# Altium schematic symbol library MCU.SchLib: 34 symbols (part 1 of 2)
Pins are listed as number, name and electrical type; pins without a type are passive.

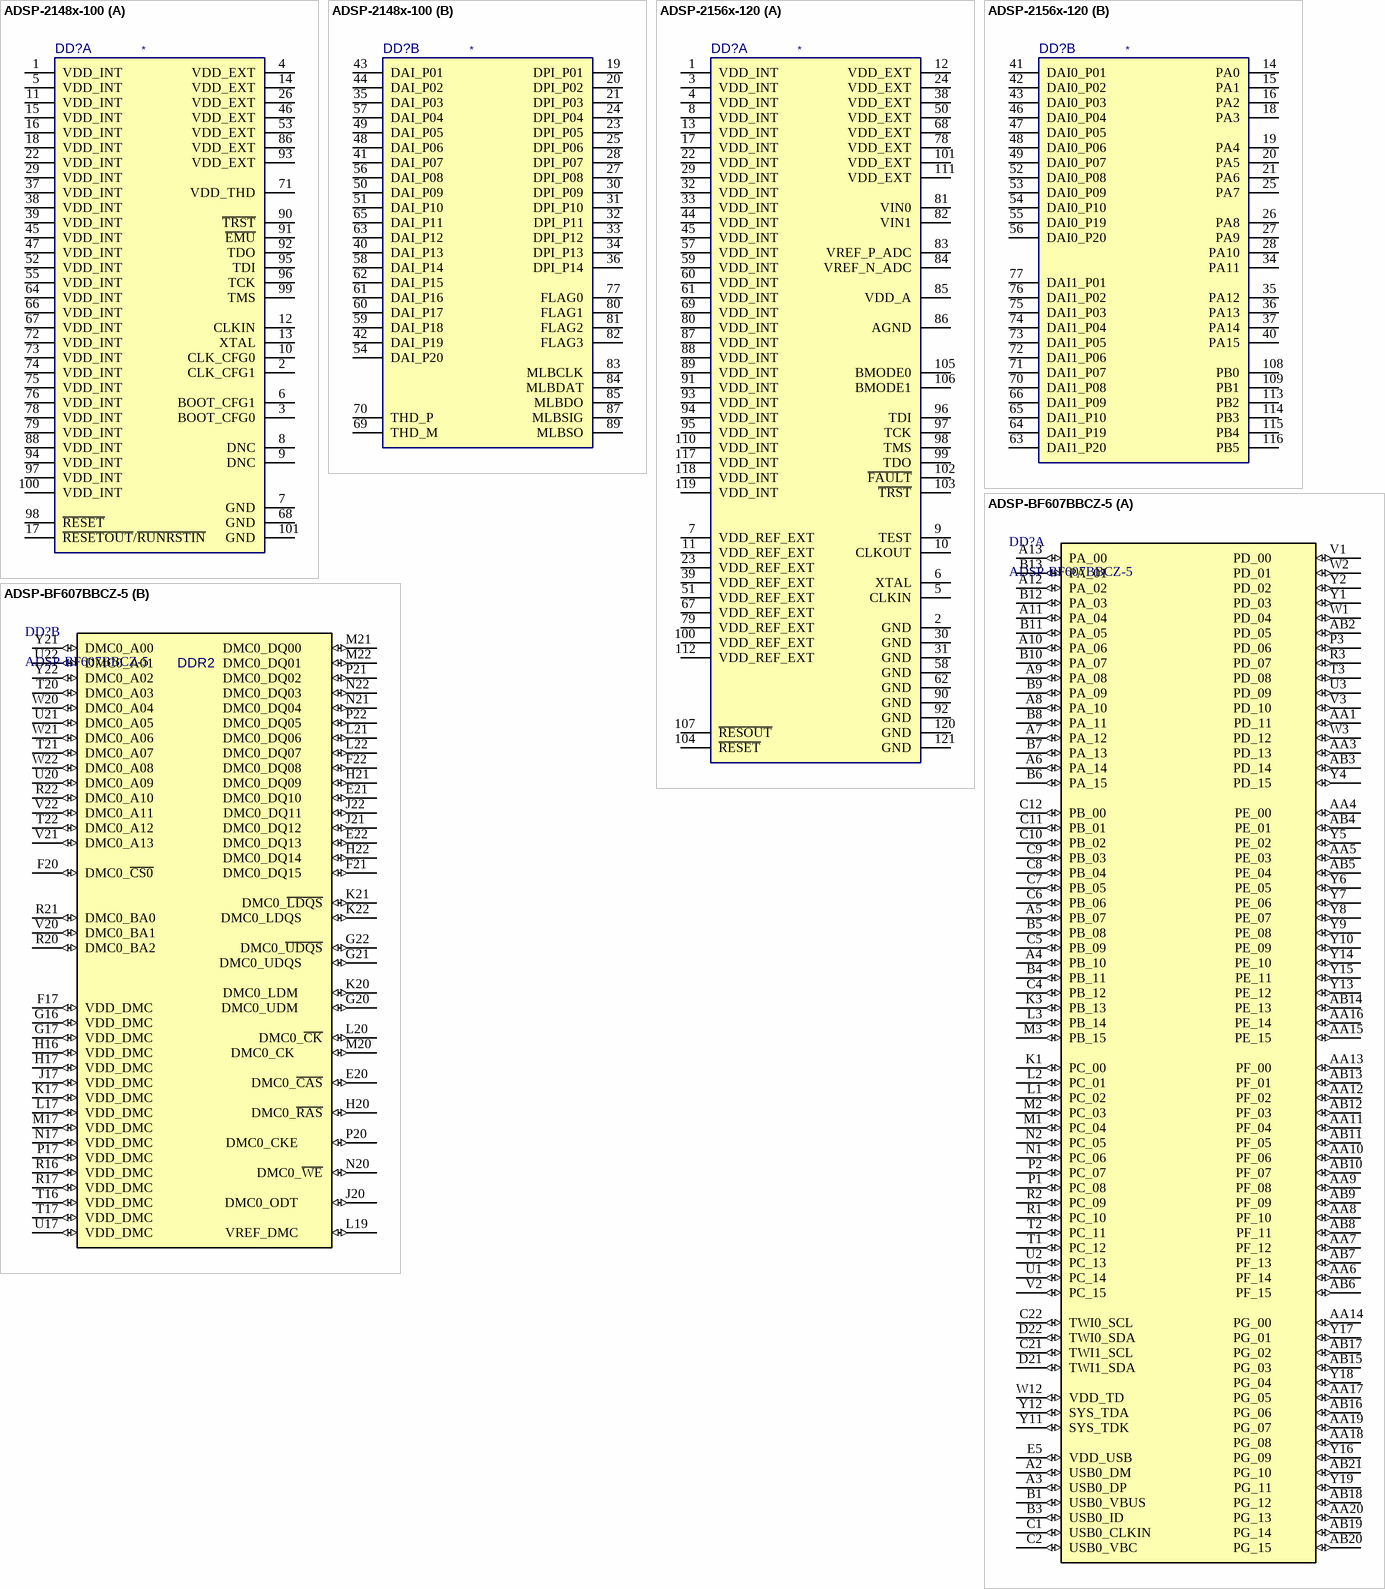
[diagram p0: symbols ADSP-2148x-100 to ADSP-BF607BBCZ-5]

## ADSP-2148x-100
designator DD?
footprint LQFP100-25
part A pins: 1 VDD_INT (power), 2 CLK_CFG1 (power), 3 BOOT_CFG0 (power), 4 VDD_EXT (power), 5 VDD_INT (power), 6 BOOT_CFG1 (power), 7 GND (power), 8 DNC (power), 9 DNC (power), 10 CLK_CFG0 (power), 11 VDD_INT (power), 12 CLKIN (power), 13 XTAL (power), 14 VDD_EXT (power), 15 VDD_INT (power), 16 VDD_INT (power), 17 ~{RESETOUT}/~{RUNRSTIN} (power), 18 VDD_INT (power), 22 VDD_INT (power), 26 VDD_EXT (power), 29 VDD_INT (power), 37 VDD_INT (power), 38 VDD_INT (power), 39 VDD_INT (power), 45 VDD_INT (power), 46 VDD_EXT (power), 47 VDD_INT (power), 52 VDD_INT (power), 53 VDD_EXT (power), 55 VDD_INT (power), 64 VDD_INT (power), 66 VDD_INT (power), 67 VDD_INT (power), 68 GND (power), 71 VDD_THD (power), 72 VDD_INT (power), 73 VDD_INT (power), 74 VDD_INT (power), 75 VDD_INT (power), 76 VDD_INT (power), 78 VDD_INT (power), 79 VDD_INT (power), 86 VDD_EXT (power), 88 VDD_INT (power), 90 ~{TRST} (power), 91 ~{EMU} (power), 92 TDO (power), 93 VDD_EXT (power), 94 VDD_INT (power), 95 TDI (power), 96 TCK (power), 97 VDD_INT (power), 98 ~{RESET} (power), 99 TMS (power), 100 VDD_INT (power), 101 GND (power)
part B pins: 19 DPI_P01 (power), 20 DPI_P02 (power), 21 DPI_P03 (power), 23 DPI_P05 (power), 24 DPI_P04 (power), 25 DPI_P06 (power), 27 DPI_P08 (power), 28 DPI_P07 (power), 30 DPI_P09 (power), 31 DPI_P10 (power), 32 DPI_P11 (power), 33 DPI_P12 (power), 34 DPI_P13 (power), 35 DAI_P03 (power), 36 DPI_P14 (power), 40 DAI_P13 (power), 41 DAI_P07 (power), 42 DAI_P19 (power), 43 DAI_P01 (power), 44 DAI_P02 (power), 48 DAI_P06 (power), 49 DAI_P05 (power), 50 DAI_P09 (power), 51 DAI_P10 (power), 54 DAI_P20 (power), 56 DAI_P08 (power), 57 DAI_P04 (power), 58 DAI_P14 (power), 59 DAI_P18 (power), 60 DAI_P17 (power), 61 DAI_P16 (power), 62 DAI_P15 (power), 63 DAI_P12 (power), 65 DAI_P11 (power), 69 THD_M (power), 70 THD_P (power), 77 FLAG0 (power), 80 FLAG1 (power), 81 FLAG2 (power), 82 FLAG3 (power), 83 MLBCLK (power), 84 MLBDAT (power), 85 MLBDO (power), 87 MLBSIG (power), 89 MLBSO (power)
1 alternate drawing of the same symbol

## ADSP-2156x-120
designator DD?
footprint LQFP120EP
part A pins: 1 VDD_INT (power), 2 GND (power), 3 VDD_INT (power), 4 VDD_INT (power), 5 CLKIN (power), 6 XTAL (power), 7 VDD_REF_EXT (power), 8 VDD_INT (power), 9 TEST (power), 10 CLKOUT (power), 11 VDD_REF_EXT (power), 12 VDD_EXT (power), 13 VDD_INT (power), 17 VDD_INT (power), 22 VDD_INT (power), 23 VDD_REF_EXT (power), 24 VDD_EXT (power), 29 VDD_INT (power), 30 GND (power), 31 GND (power), 32 VDD_INT (power), 33 VDD_INT (power), 38 VDD_EXT (power), 39 VDD_REF_EXT (power), 44 VDD_INT (power), 45 VDD_INT (power), 50 VDD_EXT (power), 51 VDD_REF_EXT (power), 57 VDD_INT (power), 58 GND (power), 59 VDD_INT (power), 60 VDD_INT (power), 61 VDD_INT (power), 62 GND (power), 67 VDD_REF_EXT (power), 68 VDD_EXT (power), 69 VDD_INT (power), 78 VDD_EXT (power), 79 VDD_REF_EXT (power), 80 VDD_INT (power), 81 VIN0 (power), 82 VIN1 (power), 83 VREF_P_ADC (power), 84 VREF_N_ADC (power), 85 VDD_A (power), 86 AGND (power), 87 VDD_INT (power), 88 VDD_INT (power), 89 VDD_INT (power), 90 GND (power), 91 VDD_INT (power), 92 GND (power), 93 VDD_INT (power), 94 VDD_INT (power), 95 VDD_INT (power), 96 TDI (power), 97 TCK (power), 98 TMS (power), 99 TDO (power), 100 VDD_REF_EXT (power), 101 VDD_EXT (power), 102 ~{FAULT} (power), 103 ~{TRST} (power), 104 ~{RESET} (power), 105 BMODE0 (power), 106 BMODE1 (power), 107 ~{RESOUT} (power), 110 VDD_INT (power), 111 VDD_EXT (power), 112 VDD_REF_EXT (power), 117 VDD_INT (power), 118 VDD_INT (power), 119 VDD_INT (power), 120 GND (power), 121 GND (power)
part B pins: 14 PA0 (power), 15 PA1 (power), 16 PA2 (power), 18 PA3 (power), 19 PA4 (power), 20 PA5 (power), 21 PA6 (power), 25 PA7 (power), 26 PA8 (power), 27 PA9 (power), 28 PA10 (power), 34 PA11 (power), 35 PA12 (power), 36 PA13 (power), 37 PA14 (power), 40 PA15 (power), 41 DAI0_P01 (power), 42 DAI0_P02 (power), 43 DAI0_P03 (power), 46 DAI0_P04 (power), 47 DAI0_P05 (power), 48 DAI0_P06 (power), 49 DAI0_P07 (power), 52 DAI0_P08 (power), 53 DAI0_P09 (power), 54 DAI0_P10 (power), 55 DAI0_P19 (power), 56 DAI0_P20 (power), 63 DAI1_P20 (power), 64 DAI1_P19 (power), 65 DAI1_P10 (power), 66 DAI1_P09 (power), 70 DAI1_P08 (power), 71 DAI1_P07 (power), 72 DAI1_P06 (power), 73 DAI1_P05 (power), 74 DAI1_P04 (power), 75 DAI1_P03 (power), 76 DAI1_P02 (power), 77 DAI1_P01 (power), 108 PB0 (power), 109 PB1 (power), 113 PB2 (power), 114 PB3 (power), 115 PB4 (power), 116 PB5 (power)

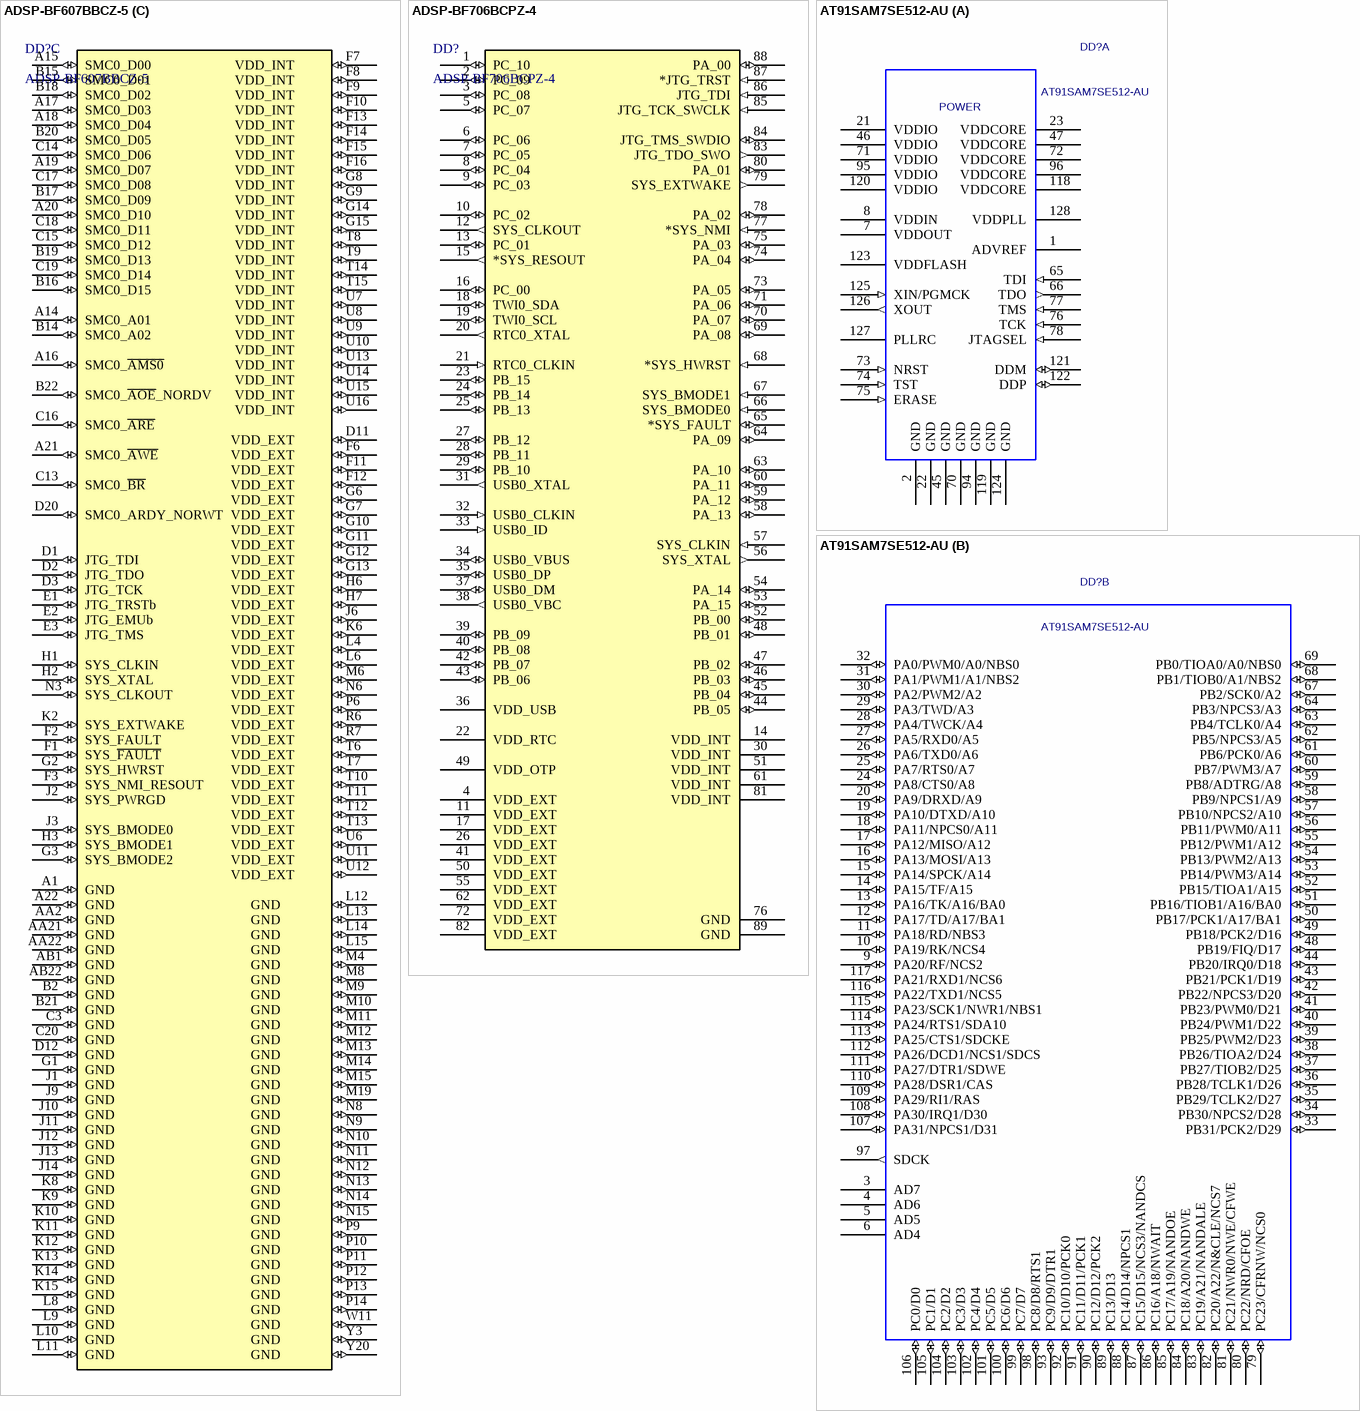
[diagram p1: symbols ADSP-BF607BBCZ-5 to AT91SAM7SE512-AU]

## ADSP-BF607BBCZ-5
designator DD?
No Description Available; Mfr_Name: Analog Devices Inc; RefDes: RefDes; Type: Type
footprint BGA349C80P22X22_1900X1900
part A pins: A2  USB0_DM         (io), A3  USB0_DP         (io), A4  PB_10           (io), A5  PB_07           (io), A6  PA_14           (io), A7  PA_12           (io), A8  PA_10           (io), A9  PA_08           (io), A10  PA_06           (io), A11  PA_04           (io), A12  PA_02           (io), A13  PA_00           (io), AA1 PD_11           (io), AA3 PD_13           (io), AA4 PE_00           (io), AA5 PE_03           (io), AA6 PF_14           (io), AA7 PF_12           (io), AA8 PF_10           (io), AA9 PF_08           (io), AA10 PF_06           (io), AA11 PF_04           (io), AA12 PF_02           (io), AA13 PF_00           (io), AA14 PG_00           (io), AA15 PE_15           (io), AA16 PE_14           (io), AA17 PG_05           (io), AA18 PG_08           (io), AA19 PG_07           (io), AA20 PG_13           (io), AB2 PD_05           (io), AB3 PD_14           (io), AB4 PE_01           (io), AB5 PE_04           (io), AB6 PF_15           (io), AB7 PF_13           (io), AB8 PF_11           (io), AB9 PF_09           (io), AB10 PF_07           (io), AB11 PF_05           (io), AB12 PF_03           (io), AB13 PF_01           (io), AB14 PE_13           (io), AB15 PG_03           (io), AB16 PG_06           (io), AB17 PG_02           (io), AB18 PG_12           (io), AB19 PG_14           (io), AB20 PG_15           (io), AB21 PG_10           (io), B1  USB0_VBUS       (io), B3  USB0_ID         (io), B4  PB_11           (io), B5  PB_08           (io), B6  PA_15           (io), B7  PA_13           (io), B8  PA_11           (io), B9  PA_09           (io), B10  PA_07           (io), B11  PA_05           (io), B12  PA_03           (io), B13  PA_01           (io), C1  USB0_CLKIN      (io), C2  USB0_VBC        (io), C4  PB_12           (io), C5  PB_09           (io), C6  PB_06           (io), C7  PB_05           (io), C8  PB_04           (io), C9  PB_03           (io), C10  PB_02           (io), C11  PB_01           (io), C12  PB_00           (io), C21  TWI1_SCL        (io), C22  TWI0_SCL        (io), D21  TWI1_SDA        (io), D22  TWI0_SDA        (io), E5  VDD_USB         (io), K1  PC_00           (io), K3  PB_13           (io), L1  PC_02           (io), L2  PC_01           (io), L3  PB_14           (io), M1  PC_04           (io), M2  PC_03           (io), M3  PB_15           (io), N1  PC_06           (io), N2  PC_05           (io), P1  PC_08           (io), P2  PC_07           (io), P3  PD_06           (io), R1  PC_10           (io), R2  PC_09           (io), R3  PD_07           (io), T1  PC_12           (io), T2  PC_11           (io), T3  PD_08           (io), U1  PC_14           (io), U2  PC_13           (io), U3  PD_09           (io), V1  PD_00           (io), V2  PC_15           (io), V3  PD_10           (io), W1  PD_04           (io), W2  PD_01           (io), W3  PD_12           (io), W12  VDD_TD          (io), Y1  PD_03           (io), Y2  PD_02           (io), Y4  PD_15           (io), Y5  PE_02           (io), Y6  PE_05           (io), Y7  PE_06           (io), Y8  PE_07           (io), Y9  PE_08           (io), Y10  PE_09           (io), Y11  SYS_TDK         (io), Y12  SYS_TDA         (io), Y13  PE_12           (io), Y14  PE_10           (io), Y15  PE_11           (io), Y16  PG_09           (io), Y17  PG_01           (io), Y18  PG_04           (io), Y19  PG_11           (io)
part B pins: E20  DMC0_~{CAS} (io), E21  DMC0_DQ10       (io), E22  DMC0_DQ13       (io), F17  VDD_DMC         (io), F20  DMC0_~{CS0}       (io), F21  DMC0_DQ15       (io), F22  DMC0_DQ08       (io), G16  VDD_DMC         (io), G17  VDD_DMC         (io), G20  DMC0_UDM        (io), G21  DMC0_UDQS       (io), G22  DMC0_~{UDQS} (io), H16  VDD_DMC         (io), H17  VDD_DMC         (io), H20  DMC0_~{RAS} (io), H21  DMC0_DQ09       (io), H22  DMC0_DQ14       (io), J17  VDD_DMC         (io), J20  DMC0_ODT        (io), J21  DMC0_DQ12       (io), J22  DMC0_DQ11       (io), K17  VDD_DMC         (io), K20  DMC0_LDM        (io), K21  DMC0_~{LDQS} (io), K22  DMC0_LDQS       (io), L17  VDD_DMC         (io), L19  VREF_DMC        (io), L20  DMC0_~{CK} (io), L21  DMC0_DQ06       (io), L22  DMC0_DQ07       (io), M17  VDD_DMC         (io), M20  DMC0_CK         (io), M21  DMC0_DQ00       (io), M22  DMC0_DQ01       (io), N17  VDD_DMC         (io), N20  DMC0_~{WE} (io), N21  DMC0_DQ04       (io), N22  DMC0_DQ03       (io), P17  VDD_DMC         (io), P20  DMC0_CKE        (io), P21  DMC0_DQ02       (io), P22  DMC0_DQ05       (io), R16  VDD_DMC         (io), R17  VDD_DMC         (io), R20  DMC0_BA2        (io), R21  DMC0_BA0        (io), R22  DMC0_A10        (io), T16  VDD_DMC         (io), T17  VDD_DMC         (io), T20  DMC0_A03        (io), T21  DMC0_A07        (io), T22  DMC0_A12        (io), U17  VDD_DMC         (io), U20  DMC0_A09        (io), U21  DMC0_A05        (io), U22  DMC0_A01        (io), V20  DMC0_BA1        (io), V21  DMC0_A13        (io), V22  DMC0_A11        (io), W20  DMC0_A04        (io), W21  DMC0_A06        (io), W22  DMC0_A08        (io), Y21  DMC0_A00        (io), Y22  DMC0_A02        (io)
part C pins: A1  GND             (io), A14  SMC0_A01        (io), A15  SMC0_D00        (io), A16  SMC0_~{AMS0} (io), A17  SMC0_D03        (io), A18  SMC0_D04        (io), A19  SMC0_D07        (io), A20  SMC0_D10        (io), A21  SMC0_~{AWE} (io), A22  GND             (io), AA2 GND             (io), AA21 GND             (io), AA22 GND             (io), AB1 GND             (io), AB22 GND             (io), B2  GND             (io), B14  SMC0_A02        (io), B15  SMC0_D01        (io), B16  SMC0_D15        (io), B17  SMC0_D09        (io), B18  SMC0_D02        (io), B19  SMC0_D13        (io), B20  SMC0_D05        (io), B21  GND             (io), B22  SMC0_~{AOE}_NORDV (io), C3 GND             (io), C13  SMC0_~{BR} (io), C14  SMC0_D06        (io), C15  SMC0_D12        (io), C16  SMC0_~{ARE} (io), C17  SMC0_D08        (io), C18  SMC0_D11        (io), C19  SMC0_D14        (io), C20  GND             (io), D1  JTG_TDI         (io), D2  JTG_TDO         (io), D3  JTG_TCK         (io), D11  VDD_EXT         (io), D12  GND             (io), D20  SMC0_ARDY_NORWT (io), E1  JTG_TRSTb       (io), E2  JTG_EMUb        (io), E3  JTG_TMS         (io), F1  SYS_~{FAULT} (io), F2  SYS_FAULT       (io), F3  SYS_NMI_RESOUT (io), F6  VDD_EXT         (io), F7  VDD_INT         (io), F8  VDD_INT         (io), F9  VDD_INT         (io), F10  VDD_INT         (io), F11  VDD_EXT         (io), F12  VDD_EXT         (io), F13  VDD_INT         (io), F14  VDD_INT         (io), F15  VDD_INT         (io), F16  VDD_INT         (io), G1  GND             (io), G2  SYS_HWRST (io), G3  SYS_BMODE2      (io), G6  VDD_EXT         (io), G7  VDD_EXT         (io), G8  VDD_INT         (io), G9  VDD_INT         (io), G10  VDD_EXT         (io), G11  VDD_EXT         (io), G12  VDD_EXT         (io), G13  VDD_EXT         (io), G14  VDD_INT         (io), G15  VDD_INT         (io), H1  SYS_CLKIN       (io), H2  SYS_XTAL        (io), H3  SYS_BMODE1      (io), H6  VDD_EXT         (io), H7  VDD_EXT         (io), J1  GND             (io), J2  SYS_PWRGD       (io), J3  SYS_BMODE0      (io), J6  VDD_EXT         (io), J9  GND             (io), J10  GND             (io), J11  GND             (io), J12  GND             (io), J13  GND             (io), J14  GND             (io), K2  SYS_EXTWAKE     (io), K6  VDD_EXT         (io), K8  GND             (io), K9  GND             (io), K10  GND             (io), K11  GND             (io), K12  GND             (io), K13  GND             (io), K14  GND             (io), K15  GND             (io), L4  VDD_EXT         (io), L6  VDD_EXT         (io), L8  GND             (io), L9  GND             (io), L10  GND             (io), L11  GND             (io), L12  GND             (io), L13  GND             (io), L14  GND             (io), L15  GND             (io), M4  GND             (io), M6  VDD_EXT         (io), M8  GND             (io), M9  GND             (io), M10  GND             (io), M11  GND             (io), M12  GND             (io), M13  GND             (io), M14  GND             (io), M15  GND             (io), M19  GND             (io), N3 SYS_CLKOUT      (io), N6  VDD_EXT         (io), N8  GND             (io), N9  GND             (io), N10  GND             (io), N11  GND             (io), N12  GND             (io), N13  GND             (io), N14  GND             (io), N15  GND             (io), P6  VDD_EXT         (io), P9  GND             (io), P10  GND             (io), P11  GND             (io), P12  GND             (io), P13  GND             (io), P14  GND             (io), R6  VDD_EXT         (io), R7  VDD_EXT         (io), T6  VDD_EXT         (io), T7  VDD_EXT         (io), T8  VDD_INT         (io), T9  VDD_INT         (io), T10  VDD_EXT         (io), T11  VDD_EXT         (io), T12  VDD_EXT         (io), T13  VDD_EXT         (io), T14  VDD_INT         (io), T15  VDD_INT         (io), U6  VDD_EXT         (io), U7  VDD_INT         (io), U8  VDD_INT         (io), U9  VDD_INT         (io), U10  VDD_INT         (io), U11  VDD_EXT         (io), U12  VDD_EXT         (io), U13  VDD_INT         (io), U14  VDD_INT         (io), U15  VDD_INT         (io), U16  VDD_INT         (io), W11  GND             (io), Y3  GND             (io), Y20  GND             (io)
1 alternate drawing of the same symbol
part B text: DDR2

## ADSP-BF706BCPZ-4
designator DD?
No Description Available; Mfr_Name: Analog Devices Inc; RefDes: RefDes; Type: Type
footprint LFCSP88 (CP-88-8) ADI-M
pins: 1 PC_10 (io), 2 PC_09 (io), 3 PC_08 (io), 4 VDD_EXT (power), 5 PC_07 (io), 6 PC_06 (io), 7 PC_05 (io), 8 PC_04 (io), 9 PC_03 (io), 10 PC_02 (io), 11 VDD_EXT (power), 12 SYS_CLKOUT (out), 13 PC_01 (io), 14 VDD_INT (power), 15 *SYS_RESOUT (out), 16 PC_00 (io), 17 VDD_EXT (power), 18 TWI0_SDA (io), 19 TWI0_SCL (io), 20 RTC0_XTAL (out), 21 RTC0_CLKIN (in), 22 VDD_RTC (power), 23 PB_15 (io), 24 PB_14 (io), 25 PB_13 (io), 26 VDD_EXT (power), 27 PB_12 (io), 28 PB_11 (io), 29 PB_10 (io), 30 VDD_INT (power), 31 USB0_XTAL (out), 32 USB0_CLKIN (in), 33 USB0_ID (in), 34 USB0_VBUS (io), 35 USB0_DP (io), 36 VDD_USB (power), 37 USB0_DM (io), 38 USB0_VBC (out), 39 PB_09 (io), 40 PB_08 (io), 41 VDD_EXT (power), 42 PB_07 (io), 43 PB_06 (io), 44 PB_05 (io), 45 PB_04 (io), 46 PB_03 (io), 47 PB_02 (io), 48 PB_01 (io), 49 VDD_OTP (power), 50 VDD_EXT (power), 51 VDD_INT (power), 52 PB_00 (io), 53 PA_15 (io), 54 PA_14 (io), 55 VDD_EXT (power), 56 SYS_XTAL (out), 57 SYS_CLKIN (in), 58 PA_13 (io), 59 PA_12 (io), 60 PA_11 (io), 61 VDD_INT (power), 62 VDD_EXT (power), 63 PA_10 (io), 64 PA_09 (io), 65 *SYS_FAULT (io), 66 SYS_BMODE0 (in), 67 SYS_BMODE1 (in), 68 *SYS_HWRST (in), 69 PA_08 (io), 70 PA_07 (io), 71 PA_06 (io), 72 VDD_EXT (power), 73 PA_05 (io), 74 PA_04 (io), 75 PA_03 (io), 76 GND (power), 77 *SYS_NMI (in), 78 PA_02 (io), 79 SYS_EXTWAKE (out), 80 PA_01 (io), 81 VDD_INT (power), 82 VDD_EXT (power), 83 JTG_TDO_SWO (out), 84 JTG_TMS_SWDIO (io), 85 JTG_TCK_SWCLK (in), 86 JTG_TDI (in), 87 *JTG_TRST (in), 88 PA_00 (io), 89 GND (power)
1 alternate drawing of the same symbol

## AT91SAM7SE512-AU
designator DD?
Value: *
footprint LQFP128
part A pins: 1 ADVREF (power), 2 GND (power), 7 VDDOUT (power), 8 VDDIN (power), 21 VDDIO (power), 22 GND (power), 23 VDDCORE (power), 45 GND (power), 46 VDDIO (power), 47 VDDCORE (power), 65 TDI (in), 66 TDO (out), 70 GND (power), 71 VDDIO (power), 72 VDDCORE (power), 73 NRST (in), 74 TST (in), 75 ERASE (in), 76 TCK (in), 77 TMS (in), 78 JTAGSEL (in), 94 GND (power), 95 VDDIO (power), 96 VDDCORE (power), 118 VDDCORE (power), 119 GND (power), 120 VDDIO (power), 121 DDM (io), 122 DDP (io), 123 VDDFLASH (power), 124 GND (power), 125 XIN/PGMCK (in), 126 XOUT (out), 127 PLLRC, 128 VDDPLL (power)
part B pins: 3 AD7, 4 AD6, 5 AD5, 6 AD4, 9 PA20/RF/NCS2 (io), 10 PA19/RK/NCS4 (io), 11 PA18/RD/NBS3 (io), 12 PA17/TD/A17/BA1 (io), 13 PA16/TK/A16/BA0 (io), 14 PA15/TF/A15 (io), 15 PA14/SPCK/A14 (io), 16 PA13/MOSI/A13 (io), 17 PA12/MISO/A12 (io), 18 PA11/NPCS0/A11 (io), 19 PA10/DTXD/A10 (io), 20 PA9/DRXD/A9 (io), 24 PA8/CTS0/A8 (io), 25 PA7/RTS0/A7 (io), 26 PA6/TXD0/A6 (io), 27 PA5/RXD0/A5 (io), 28 PA4/TWCK/A4 (io), 29 PA3/TWD/A3 (io), 30 PA2/PWM2/A2 (io), 31 PA1/PWM1/A1/NBS2 (io), 32 PA0/PWM0/A0/NBS0 (io), 33 PB31/PCK2/D29 (io), 34 PB30/NPCS2/D28 (io), 35 PB29/TCLK2/D27 (io), 36 PB28/TCLK1/D26 (io), 37 PB27/TIOB2/D25 (io), 38 PB26/TIOA2/D24 (io), 39 PB25/PWM2/D23 (io), 40 PB24/PWM1/D22 (io), 41 PB23/PWM0/D21 (io), 42 PB22/NPCS3/D20 (io), 43 PB21/PCK1/D19 (io), 44 PB20/IRQ0/D18 (io), 48 PB19/FIQ/D17 (io), 49 PB18/PCK2/D16 (io), 50 PB17/PCK1/A17/BA1 (io), 51 PB16/TIOB1/A16/BA0 (io), 52 PB15/TIOA1/A15 (io), 53 PB14/PWM3/A14 (io), 54 PB13/PWM2/A13 (io), 55 PB12/PWM1/A12 (io), 56 PB11/PWM0/A11 (io), 57 PB10/NPCS2/A10 (io), 58 PB9/NPCS1/A9 (io), 59 PB8/ADTRG/A8 (io), 60 PB7/PWM3/A7 (io), 61 PB6/PCK0/A6 (io), 62 PB5/NPCS3/A5 (io), 63 PB4/TCLK0/A4 (io), 64 PB3/NPCS3/A3 (io), 67 PB2/SCK0/A2 (io), 68 PB1/TIOB0/A1/NBS2 (io), 69 PB0/TIOA0/A0/NBS0 (io), 79 PC23/CFRNW/NCS0 (io), 80 PC22/NRD/CFOE (io), 81 PC21/NWR0/NWE/CFWE (io), 82 PC20/A22/N&CLE/NCS7 (io), 83 PC19/A21/NANDALE (io), 84 PC18/A20/NANDWE (io), 85 PC17/A19/NANDOE (io), 86 PC16/A18/NWAIT (io), 87 PC15/D15/NCS3/NANDCS (io), 88 PC14/D14/NPCS1 (io), 89 PC13/D13 (io), 90 PC12/D12/PCK2 (io), 91 PC11/D11/PCK1 (io), 92 PC10/D10/PCK0 (io), 93 PC9/D9/DTR1 (io), 97 SDCK (out), 98 PC8/D8/RTS1 (io), 99 PC7/D7 (io), 100 PC6/D6 (io), 101 PC5/D5 (io), 102 PC4/D4 (io), 103 PC3/D3 (io), 104 PC2/D2 (io), 105 PC1/D1 (io), 106 PC0/D0 (io), 107 PA31/NPCS1/D31 (io), 108 PA30/IRQ1/D30 (io), 109 PA29/RI1/RAS (io), 110 PA28/DSR1/CAS (io), 111 PA27/DTR1/SDWE (io), 112 PA26/DCD1/NCS1/SDCS (io), 113 PA25/CTS1/SDCKE (io), 114 PA24/RTS1/SDA10 (io), 115 PA23/SCK1/NWR1/NBS1 (io), 116 PA22/TXD1/NCS5 (io), 117 PA21/RXD1/NCS6 (io)
part A text: POWER

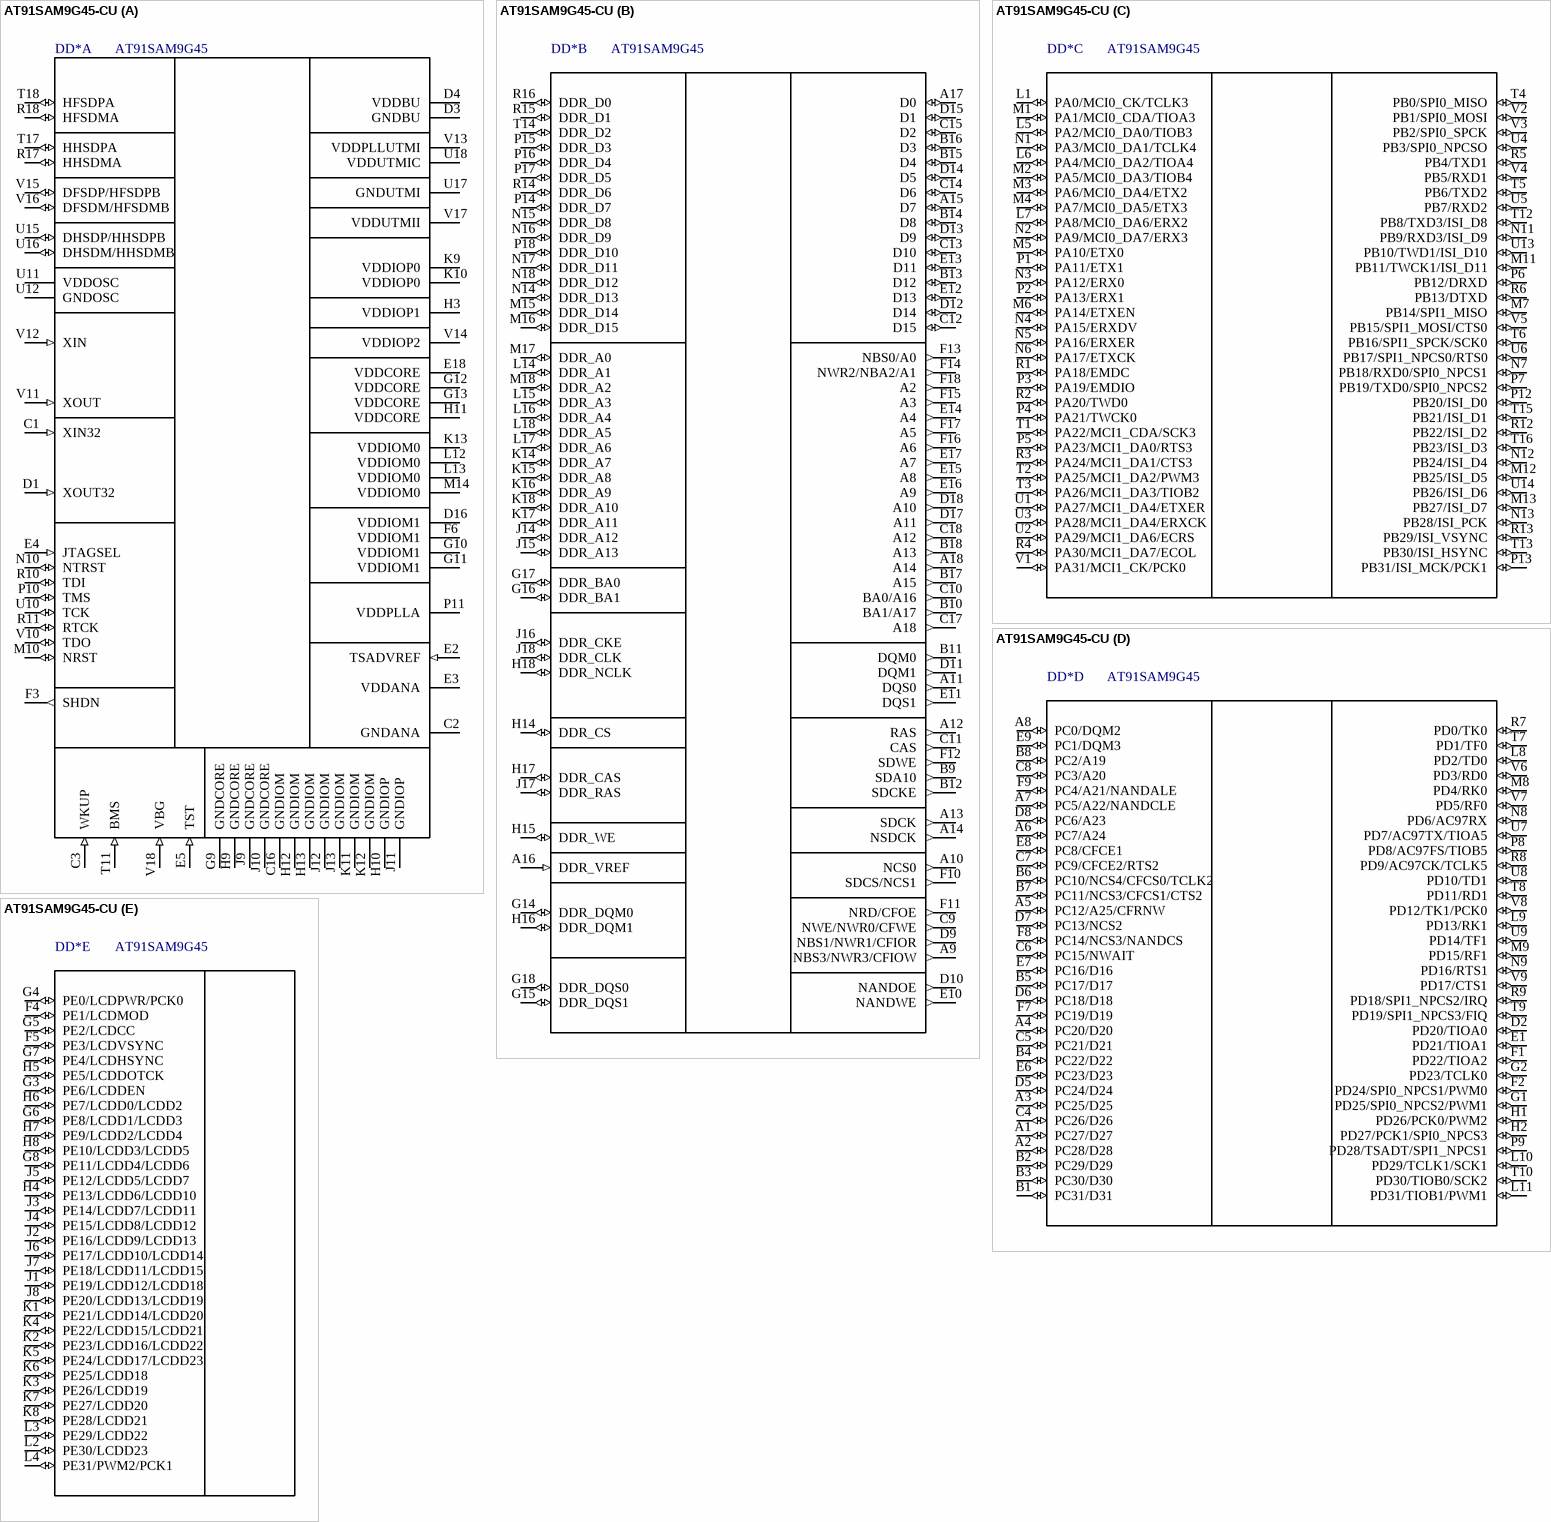
[diagram p2: symbol AT91SAM9G45-CU]

## AT91SAM9G45-CU
designator DD*, comment AT91SAM9G45
footprint BGA324x18
signal-integrity model AT91SAM9G45
part A pins: C1 XIN32 (in), C2 GNDANA (power), C3 WKUP (in), C16 GNDIOM (power), D1 XOUT32 (in), D3 GNDBU (power), D4 VDDBU (power), D16 VDDIOM1 (power), E2 TSADVREF (in), E3 VDDANA (power), E4 JTAGSEL (in), E5 TST (in), E18 VDDCORE (power), F3 SHDN (out), F6 VDDIOM1 (power), G9 GNDCORE (power), G10 VDDIOM1 (power), G11 VDDIOM1 (power), G12 VDDCORE (power), G13 VDDCORE (power), H3 VDDIOP1 (power), H9 GNDCORE (power), H10 GNDIOP (power), H11 VDDCORE (power), H12 GNDIOM (power), H13 GNDIOM (power), J9 GNDCORE (power), J10 GNDCORE (power), J11 GNDIOP (power), J12 GNDIOM (power), J13 GNDIOM (power), K9 VDDIOP0 (power), K10 VDDIOP0 (power), K11 GNDIOM (power), K12 GNDIOM (power), K13 VDDIOM0 (power), L12 VDDIOM0 (power), L13 VDDIOM0 (power), M10 NRST (io), M14 VDDIOM0 (power), N10 NTRST (io), P10 TMS (io), P11 VDDPLLA (power), R10 TDI (io), R11 RTCK (io), R17 HHSDMA (io), R18 HFSDMA (io), T11 BMS (in), T17 HHSDPA (io), T18 HFSDPA (io), U10 TCK (io), U11 VDDOSC (power), U12 GNDOSC (power), U15 DHSDP/HHSDPB (io), U16 DHSDM/HHSDMB (io), U17 GNDUTMI (power), U18 VDDUTMIC (power), V10 TDO (io), V11 XOUT (in), V12 XIN (in), V13 VDDPLLUTMI (power), V14 VDDIOP2 (power), V15 DFSDP/HFSDPB (io), V16 DFSDM/HFSDMB (io), V17 VDDUTMII (power), V18 VBG (in)
part B pins: A9 NBS3/NWR3/CFIOW (out), A10 NCS0 (out), A11 DQS0 (out), A12 RAS (out), A13 SDCK (out), A14 NSDCK (out), A15 D7 (io), A16 DDR_VREF (in), A17 D0 (io), A18 A14 (out), B9 SDA10 (out), B10 BA1/A17 (out), B11 DQM0 (out), B12 SDCKE (out), B13 D12 (io), B14 D8 (io), B15 D4 (io), B16 D3 (io), B17 A15 (out), B18 A13 (out), C9 NWE/NWR0/CFWE (out), C10 BA0/A16 (out), C11 CAS (out), C12 D15 (io), C13 D10 (io), C14 D6 (io), C15 D2 (io), C17 A18 (out), C18 A12 (out), D9 NBS1/NWR1/CFIOR (out), D10 NANDOE (out), D11 DQM1 (out), D12 D14 (io), D13 D9 (io), D14 D5 (io), D15 D1 (io), D17 A11 (out), D18 A10 (out), E10 NANDWE (out), E11 DQS1 (out), E12 D13 (io), E13 D11 (io), E14 A4 (out), E15 A8 (out), E16 A9 (out), E17 A7 (out), F10 SDCS/NCS1 (out), F11 NRD/CFOE (out), F12 SDWE (out), F13 NBS0/A0 (out), F14 NWR2/NBA2/A1 (out), F15 A3 (out), F16 A6 (out), F17 A5 (out), F18 A2 (out), G14 DDR_DQM0 (io), G15 DDR_DQS1 (io), G16 DDR_BA1 (io), G17 DDR_BA0 (io), G18 DDR_DQS0 (io), H14 DDR_CS (io), H15 DDR_WE (io), H16 DDR_DQM1 (io), H17 DDR_CAS (io), H18 DDR_NCLK (io), J14 DDR_A12 (io), J15 DDR_A13 (io), J16 DDR_CKE (io), J17 DDR_RAS (io), J18 DDR_CLK (io), K14 DDR_A7 (io), K15 DDR_A8 (io), K16 DDR_A9 (io), K17 DDR_A11 (io), K18 DDR_A10 (io), L14 DDR_A1 (io), L15 DDR_A3 (io), L16 DDR_A4 (io), L17 DDR_A6 (io), L18 DDR_A5 (io), M15 DDR_D14 (io), M16 DDR_D15 (io), M17 DDR_A0 (io), M18 DDR_A2 (io), N14 DDR_D13 (io), N15 DDR_D8 (io), N16 DDR_D9 (io), N17 DDR_D11 (io), N18 DDR_D12 (io), P14 DDR_D7 (io), P15 DDR_D3 (io), P16 DDR_D4 (io), P17 DDR_D5 (io), P18 DDR_D10 (io), R14 DDR_D6 (io), R15 DDR_D1 (io), R16 DDR_D0 (io), T14 DDR_D2 (io)
part C pins: L1 PA0/MCI0_CK/TCLK3 (io), L5 PA2/MCI0_DA0/TIOB3 (io), L6 PA4/MCI0_DA2/TIOA4 (io), L7 PA8/MCI0_DA6/ERX2 (io), M1 PA1/MCI0_CDA/TIOA3 (io), M2 PA5/MCI0_DA3/TIOB4 (io), M3 PA6/MCI0_DA4/ETX2 (io), M4 PA7/MCI0_DA5/ETX3 (io), M5 PA10/ETX0 (io), M6 PA14/ETXEN (io), M7 PB14/SPI1_MISO (io), M11 PB11/TWCK1/ISI_D11 (io), M12 PB25/ISI_D5 (io), M13 PB27/ISI_D7 (io), N1 PA3/MCI0_DA1/TCLK4 (io), N2 PA9/MCI0_DA7/ERX3 (io), N3 PA12/ERX0 (io), N4 PA15/ERXDV (io), N5 PA16/ERXER (io), N6 PA17/ETXCK (io), N7 PB18/RXD0/SPI0_NPCS1 (io), N11 PB9/RXD3/ISI_D9 (io), N12 PB24/ISI_D4 (io), N13 PB28/ISI_PCK (io), P1 PA11/ETX1 (io), P2 PA13/ERX1 (io), P3 PA19/EMDIO (io), P4 PA21/TWCK0 (io), P5 PA23/MCI1_DA0/RTS3 (io), P6 PB12/DRXD (io), P7 PB19/TXD0/SPI0_NPCS2 (io), P12 PB20/ISI_D0 (io), P13 PB31/ISI_MCK/PCK1 (io), R1 PA18/EMDC (io), R2 PA20/TWD0 (io), R3 PA24/MCI1_DA1/CTS3 (io), R4 PA30/MCI1_DA7/ECOL (io), R5 PB4/TXD1 (io), R6 PB13/DTXD (io), R12 PB22/ISI_D2 (io), R13 PB29/ISI_VSYNC (io), T1 PA22/MCI1_CDA/SCK3 (io), T2 PA25/MCI1_DA2/PWM3 (io), T3 PA26/MCI1_DA3/TIOB2 (io), T4 PB0/SPI0_MISO (io), T5 PB6/TXD2 (io), T6 PB16/SPI1_SPCK/SCK0 (io), T12 PB8/TXD3/ISI_D8 (io), T13 PB30/ISI_HSYNC (io), T15 PB21/ISI_D1 (io), T16 PB23/ISI_D3 (io), U1 PA27/MCI1_DA4/ETXER (io), U2 PA29/MCI1_DA6/ECRS (io), U3 PA28/MCI1_DA4/ERXCK (io), U4 PB3/SPI0_NPCSO (io), U5 PB7/RXD2 (io), U6 PB17/SPI1_NPCS0/RTS0 (io), U13 PB10/TWD1/ISI_D10 (io), U14 PB26/ISI_D6 (io), V1 PA31/MCI1_CK/PCK0 (io), V2 PB1/SPI0_MOSI (io), V3 PB2/SPI0_SPCK (io), V4 PB5/RXD1 (io), V5 PB15/SPI1_MOSI/CTS0 (io)
part D pins: A1 PC27/D27 (io), A2 PC28/D28 (io), A3 PC25/D25 (io), A4 PC20/D20 (io), A5 PC12/A25/CFRNW (io), A6 PC7/A24 (io), A7 PC5/A22/NANDCLE (io), A8 PC0/DQM2 (io), B1 PC31/D31 (io), B2 PC29/D29 (io), B3 PC30/D30 (io), B4 PC22/D22 (io), B5 PC17/D17 (io), B6 PC10/NCS4/CFCS0/TCLK2 (io), B7 PC11/NCS3/CFCS1/CTS2 (io), B8 PC2/A19 (io), C4 PC26/D26 (io), C5 PC21/D21 (io), C6 PC15/NWAIT (io), C7 PC9/CFCE2/RTS2 (io), C8 PC3/A20 (io), D2 PD20/TIOA0 (io), D5 PC24/D24 (io), D6 PC18/D18 (io), D7 PC13/NCS2 (io), D8 PC6/A23 (io), E1 PD21/TIOA1 (io), E6 PC23/D23 (io), E7 PC16/D16 (io), E8 PC8/CFCE1 (io), E9 PC1/DQM3 (io), F1 PD22/TIOA2 (io), F2 PD24/SPI0_NPCS1/PWM0 (io), F7 PC19/D19 (io), F8 PC14/NCS3/NANDCS (io), F9 PC4/A21/NANDALE (io), G1 PD25/SPI0_NPCS2/PWM1 (io), G2 PD23/TCLK0 (io), H1 PD26/PCK0/PWM2 (io), H2 PD27/PCK1/SPI0_NPCS3 (io), L8 PD2/TD0 (io), L9 PD13/RK1 (io), L10 PD29/TCLK1/SCK1 (io), L11 PD31/TIOB1/PWM1 (io), M8 PD4/RK0 (io), M9 PD15/RF1 (io), N8 PD6/AC97RX (io), N9 PD16/RTS1 (io), P8 PD8/AC97FS/TIOB5 (io), P9 PD28/TSADT/SPI1_NPCS1 (io), R7 PD0/TK0 (io), R8 PD9/AC97CK/TCLK5 (io), R9 PD18/SPI1_NPCS2/IRQ (io), T7 PD1/TF0 (io), T8 PD11/RD1 (io), T9 PD19/SPI1_NPCS3/FIQ (io), T10 PD30/TIOB0/SCK2 (io), U7 PD7/AC97TX/TIOA5 (io), U8 PD10/TD1 (io), U9 PD14/TF1 (io), V6 PD3/RD0 (io), V7 PD5/RF0 (io), V8 PD12/TK1/PCK0 (io), V9 PD17/CTS1 (io)
part E pins: F4 PE1/LCDMOD (io), F5 PE3/LCDVSYNC (io), G3 PE6/LCDDEN (io), G4 PE0/LCDPWR/PCK0 (io), G5 PE2/LCDCC (io), G6 PE8/LCDD1/LCDD3 (io), G7 PE4/LCDHSYNC (io), G8 PE11/LCDD4/LCDD6 (io), H4 PE13/LCDD6/LCDD10 (io), H5 PE5/LCDDOTCK (io), H6 PE7/LCDD0/LCDD2 (io), H7 PE9/LCDD2/LCDD4 (io), H8 PE10/LCDD3/LCDD5 (io), J1 PE19/LCDD12/LCDD18 (io), J2 PE16/LCDD9/LCDD13 (io), J3 PE14/LCDD7/LCDD11 (io), J4 PE15/LCDD8/LCDD12 (io), J5 PE12/LCDD5/LCDD7 (io), J6 PE17/LCDD10/LCDD14 (io), J7 PE18/LCDD11/LCDD15 (io), J8 PE20/LCDD13/LCDD19 (io), K1 PE21/LCDD14/LCDD20 (io), K2 PE23/LCDD16/LCDD22 (io), K3 PE26/LCDD19 (io), K4 PE22/LCDD15/LCDD21 (io), K5 PE24/LCDD17/LCDD23 (io), K6 PE25/LCDD18 (io), K7 PE27/LCDD20 (io), K8 PE28/LCDD21 (io), L2 PE30/LCDD23 (io), L3 PE29/LCDD22 (io), L4 PE31/PWM2/PCK1 (io)

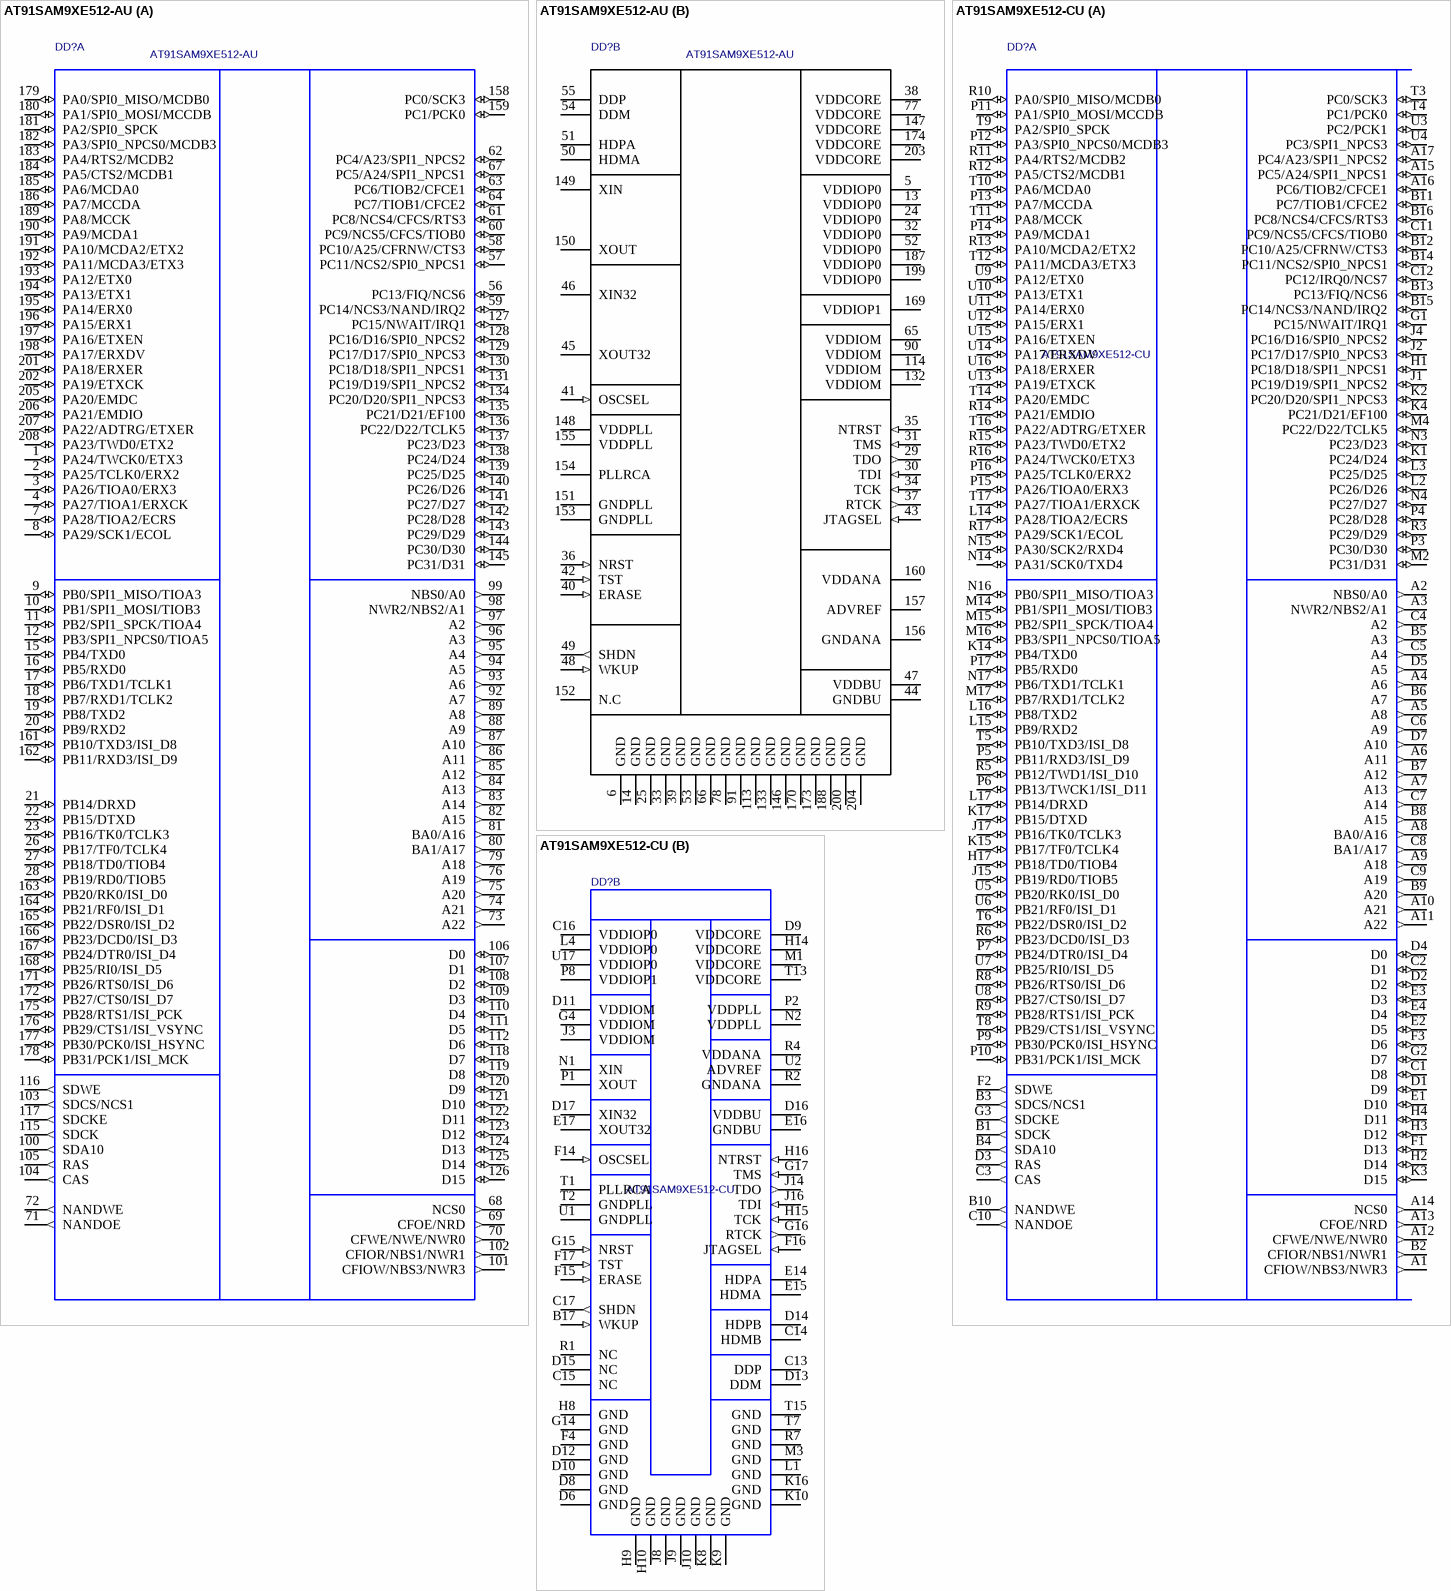
[diagram p3: symbols AT91SAM9XE512-AU to AT91SAM9XE512-CU]

## AT91SAM9XE512-AU
designator DD?
Value: *
footprint PQFP208
signal-integrity model sam9xe512_sq208_33
part A pins: 1 PA24/TWCK0/ETX3 (io), 2 PA25/TCLK0/ERX2 (io), 3 PA26/TIOA0/ERX3 (io), 4 PA27/TIOA1/ERXCK (io), 7 PA28/TIOA2/ECRS (io), 8 PA29/SCK1/ECOL (io), 9 PB0/SPI1_MISO/TIOA3 (io), 10 PB1/SPI1_MOSI/TIOB3 (io), 11 PB2/SPI1_SPCK/TIOA4 (io), 12 PB3/SPI1_NPCS0/TIOA5 (io), 15 PB4/TXD0 (io), 16 PB5/RXD0 (io), 17 PB6/TXD1/TCLK1 (io), 18 PB7/RXD1/TCLK2 (io), 19 PB8/TXD2 (io), 20 PB9/RXD2 (io), 21 PB14/DRXD (io), 22 PB15/DTXD (io), 23 PB16/TK0/TCLK3 (io), 26 PB17/TF0/TCLK4 (io), 27 PB18/TD0/TIOB4 (io), 28 PB19/RD0/TIOB5 (io), 56 PC13/FIQ/NCS6 (io), 57 PC11/NCS2/SPI0_NPCS1 (io), 58 PC10/A25/CFRNW/CTS3 (io), 59 PC14/NCS3/NAND/IRQ2 (io), 60 PC9/NCS5/CFCS/TIOB0 (io), 61 PC8/NCS4/CFCS/RTS3 (io), 62 PC4/A23/SPI1_NPCS2 (io), 63 PC6/TIOB2/CFCE1 (io), 64 PC7/TIOB1/CFCE2 (io), 67 PC5/A24/SPI1_NPCS1 (io), 68 NCS0 (out), 69 CFOE/NRD (out), 70 CFWE/NWE/NWR0 (out), 71 NANDOE (out), 72 NANDWE (out), 73 A22 (out), 74 A21 (out), 75 A20 (out), 76 A19 (out), 79 A18 (out), 80 BA1/A17 (out), 81 BA0/A16 (out), 82 A15 (out), 83 A14 (out), 84 A13 (out), 85 A12 (out), 86 A11 (out), 87 A10 (out), 88 A9 (out), 89 A8 (out), 92 A7 (out), 93 A6 (out), 94 A5 (out), 95 A4 (out), 96 A3 (out), 97 A2 (out), 98 NWR2/NBS2/A1 (out), 99 NBS0/A0 (out), 100 SDA10 (out), 101 CFIOW/NBS3/NWR3 (out), 102 CFIOR/NBS1/NWR1 (out), 103 SDCS/NCS1 (out), 104 CAS (out), 105 RAS (out), 106 D0 (io), 107 D1 (io), 108 D2 (io), 109 D3 (io), 110 D4 (io), 111 D5 (io), 112 D6 (io), 115 SDCK (out), 116 SDWE (out), 117 SDCKE (out), 118 D7 (io), 119 D8 (io), 120 D9 (io), 121 D10 (io), 122 D11 (io), 123 D12 (io), 124 D13 (io), 125 D14 (io), 126 D15 (io), 127 PC15/NWAIT/IRQ1 (io), 128 PC16/D16/SPI0_NPCS2 (io), 129 PC17/D17/SPI0_NPCS3 (io), 130 PC18/D18/SPI1_NPCS1 (io), 131 PC19/D19/SPI1_NPCS2 (io), 134 PC20/D20/SPI1_NPCS3 (io), 135 PC21/D21/EF100 (io), 136 PC22/D22/TCLK5 (io), 137 PC23/D23 (io), 138 PC24/D24 (io), 139 PC25/D25 (io), 140 PC26/D26 (io), 141 PC27/D27 (io), 142 PC28/D28 (io), 143 PC29/D29 (io), 144 PC30/D30 (io), 145 PC31/D31 (io), 158 PC0/SCK3 (io), 159 PC1/PCK0 (io), 161 PB10/TXD3/ISI_D8 (io), 162 PB11/RXD3/ISI_D9 (io), 163 PB20/RK0/ISI_D0 (io), 164 PB21/RF0/ISI_D1 (io), 165 PB22/DSR0/ISI_D2 (io), 166 PB23/DCD0/ISI_D3 (io), 167 PB24/DTR0/ISI_D4 (io), 168 PB25/RI0/ISI_D5 (io), 171 PB26/RTS0/ISI_D6 (io), 172 PB27/CTS0/ISI_D7 (io), 175 PB28/RTS1/ISI_PCK (io), 176 PB29/CTS1/ISI_VSYNC (io), 177 PB30/PCK0/ISI_HSYNC (io), 178 PB31/PCK1/ISI_MCK (io), 179 PA0/SPI0_MISO/MCDB0 (io), 180 PA1/SPI0_MOSI/MCCDB (io), 181 PA2/SPI0_SPCK (io), 182 PA3/SPI0_NPCS0/MCDB3 (io), 183 PA4/RTS2/MCDB2 (io), 184 PA5/CTS2/MCDB1 (io), 185 PA6/MCDA0 (io), 186 PA7/MCCDA (io), 189 PA8/MCCK (io), 190 PA9/MCDA1 (io), 191 PA10/MCDA2/ETX2 (io), 192 PA11/MCDA3/ETX3 (io), 193 PA12/ETX0 (io), 194 PA13/ETX1 (io), 195 PA14/ERX0 (io), 196 PA15/ERX1 (io), 197 PA16/ETXEN (io), 198 PA17/ERXDV (io), 201 PA18/ERXER (io), 202 PA19/ETXCK (io), 205 PA20/EMDC (io), 206 PA21/EMDIO (io), 207 PA22/ADTRG/ETXER (io), 208 PA23/TWD0/ETX2 (io)
part B pins: 5 VDDIOP0 (power), 6 GND (power), 13 VDDIOP0 (power), 14 GND (power), 24 VDDIOP0 (power), 25 GND (power), 29 TDO (out), 30 TDI (in), 31 TMS (in), 32 VDDIOP0 (power), 33 GND (power), 34 TCK (in), 35 NTRST (in), 36 NRST (in), 37 RTCK (out), 38 VDDCORE (power), 39 GND (power), 40 ERASE (in), 41 OSCSEL (in), 42 TST (in), 43 JTAGSEL (in), 44 GNDBU (power), 45 XOUT32, 46 XIN32, 47 VDDBU (power), 48 WKUP (in), 49 SHDN (out), 50 HDMA, 51 HDPA, 52 VDDIOP0 (power), 53 GND (power), 54 DDM, 55 DDP, 65 VDDIOM (power), 66 GND (power), 77 VDDCORE (power), 78 GND (power), 90 VDDIOM (power), 91 GND (power), 113 GND (power), 114 VDDIOM (power), 132 VDDIOM (power), 133 GND (power), 146 GND (power), 147 VDDCORE (power), 148 VDDPLL (power), 149 XIN, 150 XOUT, 151 GNDPLL (power), 152 N.C (power), 153 GNDPLL (power), 154 PLLRCA, 155 VDDPLL (power), 156 GNDANA (power), 157 ADVREF (power), 160 VDDANA (power), 169 VDDIOP1 (power), 170 GND (power), 173 GND (power), 174 VDDCORE (power), 187 VDDIOP0 (power), 188 GND (power), 199 VDDIOP0 (power), 200 GND (power), 203 VDDCORE (power), 204 GND (power)

## AT91SAM9XE512-CU
designator DD?
Value: *
footprint LFBGA-217_AT91SAM9XE512-CU(Primary)
part A pins: A1 CFIOW/NBS3/NWR3 (out), A2 NBS0/A0 (out), A3 NWR2/NBS2/A1 (out), A4 A6 (out), A5 A8 (out), A6 A11 (out), A7 A13 (out), A8 BA0/A16 (out), A9 A18 (out), A10 A21 (out), A11 A22 (out), A12 CFWE/NWE/NWR0 (out), A13 CFOE/NRD (out), A14 NCS0 (out), A15 PC5/A24/SPI1_NPCS1 (io), A16 PC6/TIOB2/CFCE1 (io), A17 PC4/A23/SPI1_NPCS2 (io), B1 SDCK (out), B2 CFIOR/NBS1/NWR1 (out), B3 SDCS/NCS1 (out), B4 SDA10 (out), B5 A3 (out), B6 A7 (out), B7 A12 (out), B8 A15 (out), B9 A20 (out), B10 NANDWE (out), B11 PC7/TIOB1/CFCE2 (io), B12 PC10/A25/CFRNW/CTS3 (io), B13 PC13/FIQ/NCS6 (io), B14 PC11/NCS2/SPI0_NPCS1 (io), B15 PC14/NCS3/NAND/IRQ2 (io), B16 PC8/NCS4/CFCS/RTS3 (io), C1 D8 (io), C2 D1 (io), C3 CAS (out), C4 A2 (out), C5 A4 (out), C6 A9 (out), C7 A14 (out), C8 BA1/A17 (out), C9 A19 (out), C10 NANDOE (out), C11 PC9/NCS5/CFCS/TIOB0 (io), C12 PC12/IRQ0/NCS7 (io), D1 D9 (io), D2 (io), D3 RAS (out), D4 D0 (io), D5 A5 (out), D7 A10 (out), E1 D10 (io), E2 D5 (io), E3 D3 (io), E4 D4 (io), F1 D13 (io), F2 SDWE (out), F3 D6 (io), G1 PC15/NWAIT/IRQ1 (io), G2 D7 (io), G3 SDCKE (out), H1 PC18/D18/SPI1_NPCS1 (io), H2 D14 (io), H3 D12 (io), H4 D11 (io), H17 PB18/TD0/TIOB4 (io), J1 PC19/D19/SPI1_NPCS2 (io), J2 PC17/D17/SPI0_NPCS3 (io), J4 PC16/D16/SPI0_NPCS2 (io), J15 PB19/RD0/TIOB5 (io), J17 PB16/TK0/TCLK3 (io), K1 PC24/D24 (io), K2 PC20/D20/SPI1_NPCS3 (io), K3 D15 (io), K4 PC21/D21/EF100 (io), K14 PB4/TXD0 (io), K15 PB17/TF0/TCLK4 (io), K17 PB15/DTXD (io), L2 PC26/D26 (io), L3 PC25/D25 (io), L14 PA28/TIOA2/ECRS (io), L15 PB9/RXD2 (io), L16 PB8/TXD2 (io), L17 PB14/DRXD (io), M2 PC31/D31 (io), M4 PC22/D22/TCLK5 (io), M14 PB1/SPI1_MOSI/TIOB3 (io), M15 PB2/SPI1_SPCK/TIOA4 (io), M16 PB3/SPI1_NPCS0/TIOA5 (io), M17 PB7/RXD1/TCLK2 (io), N3 PC23/D23 (io), N4 PC27/D27 (io), N14 PA31/SCK0/TXD4 (io), N15 PA30/SCK2/RXD4 (io), N16 PB0/SPI1_MISO/TIOA3 (io), N17 PB6/TXD1/TCLK1 (io), P3 PC30/D30 (io), P4 PC28/D28 (io), P5 PB11/RXD3/ISI_D9 (io), P6 PB13/TWCK1/ISI_D11 (io), P7 PB24/DTR0/ISI_D4 (io), P9 PB30/PCK0/ISI_HSYNC (io), P10 PB31/PCK1/ISI_MCK (io), P11 PA1/SPI0_MOSI/MCCDB (io), P12 PA3/SPI0_NPCS0/MCDB3 (io), P13 PA7/MCCDA (io), P14 PA9/MCDA1 (io), P15 PA26/TIOA0/ERX3 (io), P16 PA25/TCLK0/ERX2 (io), P17 PB5/RXD0 (io), R3 PC29/D29 (io), R5 PB12/TWD1/ISI_D10 (io), R6 PB23/DCD0/ISI_D3 (io), R8 PB26/RTS0/ISI_D6 (io), R9 PB28/RTS1/ISI_PCK (io), R10 PA0/SPI0_MISO/MCDB0 (io), R11 PA4/RTS2/MCDB2 (io), R12 PA5/CTS2/MCDB1 (io), R13 PA10/MCDA2/ETX2 (io), R14 PA21/EMDIO (io), R15 PA23/TWD0/ETX2 (io), R16 PA24/TWCK0/ETX3 (io), R17 PA29/SCK1/ECOL (io), T3 PC0/SCK3 (io), T4 PC1/PCK0 (io), T5 PB10/TXD3/ISI_D8 (io), T6 PB22/DSR0/ISI_D2 (io), T8 PB29/CTS1/ISI_VSYNC (io), T9 PA2/SPI0_SPCK (io), T10 PA6/MCDA0 (io), T11 PA8/MCCK (io), T12 PA11/MCDA3/ETX3 (io), T14 PA20/EMDC (io), T16 PA22/ADTRG/ETXER (io), T17 PA27/TIOA1/ERXCK (io), U3 PC2/PCK1 (io), U4 PC3/SPI1_NPCS3 (io), U5 PB20/RK0/ISI_D0 (io), U6 PB21/RF0/ISI_D1 (io), U7 PB25/RI0/ISI_D5 (io), U8 PB27/CTS0/ISI_D7 (io), U9 PA12/ETX0 (io), U10 PA13/ETX1 (io), U11 PA14/ERX0 (io), U12 PA15/ERX1 (io), U13 PA19/ETXCK (io), U14 PA17/ERXDV (io), U15 PA16/ETXEN (io), U16 PA18/ERXER (io)
part B pins: B17 WKUP (in), C13 DDP, C14 HDMB, C15 NC (hiz), C16 VDDIOP0 (power), C17 SHDN (out), D6 GND (power), D8 GND (power), D9 VDDCORE (power), D10 GND (power), D11 VDDIOM (power), D12 GND (power), D13 DDM, D14 HDPB, D15 NC, D16 VDDBU (power), D17 XIN32, E14 HDPA, E15 HDMA, E16 GNDBU (power), E17 XOUT32, F4 GND (power), F14 OSCSEL (in), F15 ERASE (in), F16 JTAGSEL (in), F17 TST (in), G4 VDDIOM (power), G14 GND (power), G15 NRST (in), G16 RTCK (out), G17 TMS (in), H8 GND (power), H9 GND (power), H10 GND (power), H14 VDDCORE (power), H15 TCK (in), H16 NTRST (in), J3 VDDIOM (power), J8 GND (power), J9 GND (power), J10 GND (power), J14 TDO (out), J16 TDI (in), K8 GND (power), K9 GND (power), K10 GND (power), K16 GND (power), L1 GND (power), L4 VDDIOP0 (power), M1 VDDCORE (power), M3 GND (power), N1 XIN, N2 VDDPLL (power), P1 XOUT, P2 VDDPLL (power), P8 VDDIOP1 (power), R1 NC, R2 GNDANA (power), R4 VDDANA (power), R7 GND (power), T1 PLLRCA, T2 GNDPLL (power), T7 GND (power), T13 VDDCORE (power), T15 GND, U1 GNDPLL (power), U2 ADVREF (power), U17 VDDIOP0 (power)

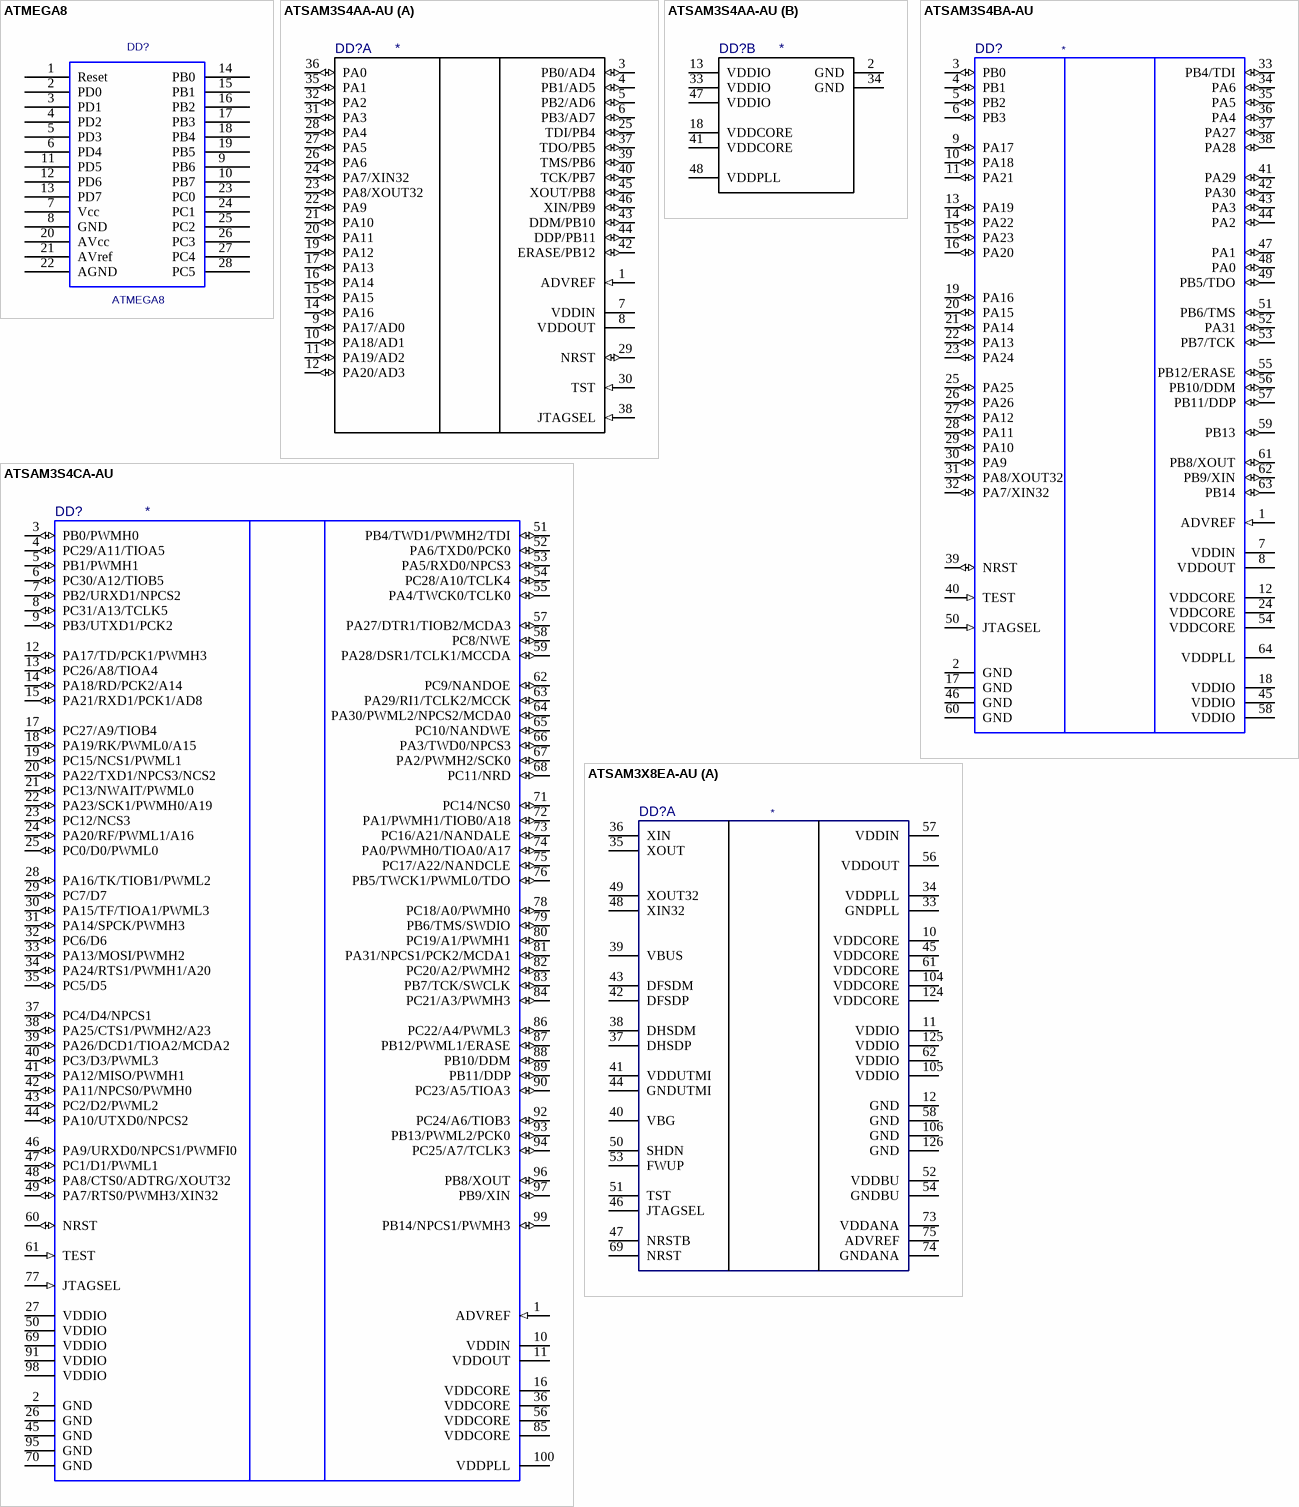
[diagram p4: symbols ATMEGA8 to ATSAM3X8EA-AU]

## ATMEGA8
designator DD?
Value: *
footprint PDIP28
pins: 1 Reset, 2 PD0, 3 PD1, 4 PD2, 5 PD3, 6 PD4, 7 Vcc (power), 8 GND (power), 9 PB6, 10 PB7, 11 PD5, 12 PD6, 13 PD7, 14 PB0, 15 PB1, 16 PB2, 17 PB3, 18 PB4, 19 PB5, 20 AVcc (power), 21 AVref (power), 22 AGND (power), 23 PC0, 24 PC1, 25 PC2, 26 PC3, 27 PC4, 28 PC5

## ATSAM3S4AA-AU
designator DD?
AT91 ARM Cortex-M3 32-bit Microcontroller, 256KB Flash, 48KB ROM, 8-ch. ADC, 34 User I/Os, 48-Pin LQFP, Industrial Grade (-40°C to 85°C), Pb-Free; Published: 20-Sep-2010; DatasheetVersion: revA, Dec-2009; PackageVersion: revC, Oct-2001; PackageReference: 48AA; Publisher: Altium Limited; PackageDescription: 48-Pin Plastic Low Profile Quad Flat Pack (LQFP), 7 x 7 x 1.4 mm Body, 0.5 mm Pitch; Supplier 1: Digi-Key; Supplier Part Number 1: ATSAM3S4AA-AU-ND; Supplier 2: Mouser; Supplier Part Number 2: 556-ATSAM3S4AA-AU; Code_JEDEC: MS-026-BBC; ComponentLink1Description: Manufacturer Link; ComponentLink1URL: http://www.atmel.com/products/AT91/default.asp?; ComponentLink2Description: SAM3S Series Datasheet; ComponentLink2URL: http://www.atmel.com/dyn/resources/prod_documents/doc6500.pdf; ComponentLink3Description: SAM3S Series Summary; ComponentLink3URL: http://www.atmel.com/dyn/resources/prod_documents/6500s.pdf; ComponentLink4Description: Atmel.com Home; ComponentLink4URL: http://www.atmel.com
footprint LQFP48_VBH48A
part A pins: 1 ADVREF (in), 3 PB0/AD4 (io), 4 PB1/AD5 (io), 5 PB2/AD6 (io), 6 PB3/AD7 (io), 7 VDDIN (power), 8 VDDOUT (power), 9 PA17/AD0 (io), 10 PA18/AD1 (io), 11 PA19/AD2 (io), 12 PA20/AD3 (io), 14 PA16 (io), 15 PA15 (io), 16 PA14 (io), 17 PA13 (io), 19 PA12 (io), 20 PA11 (io), 21 PA10 (io), 22 PA9 (io), 23 PA8/XOUT32 (io), 24 PA7/XIN32 (io), 25 TDI/PB4 (io), 26 PA6 (io), 27 PA5 (io), 28 PA4 (io), 29 NRST (io), 30 TST (in), 31 PA3 (io), 32 PA2 (io), 35 PA1 (io), 36 PA0 (io), 37 TDO/PB5 (io), 38 JTAGSEL (in), 39 TMS/PB6 (io), 40 TCK/PB7 (io), 42 ERASE/PB12 (io), 43 DDM/PB10 (io), 44 DDP/PB11 (io), 45 XOUT/PB8 (io), 46 XIN/PB9 (io)
part B pins: 2 GND (power), 13 VDDIO (power), 18 VDDCORE (power), 33 VDDIO (power), 34 GND (power), 41 VDDCORE (power), 47 VDDIO (power), 48 VDDPLL (power)

## ATSAM3S4BA-AU
designator DD?
signal-integrity model SAM3S4B
pins: 1 ADVREF (in), 2 GND (power), 3 PB0 (io), 4 PB1 (io), 5 PB2 (io), 6 PB3 (io), 7 VDDIN (power), 8 VDDOUT (power), 9 PA17 (io), 10 PA18 (io), 11 PA21 (io), 12 VDDCORE (power), 13 PA19 (io), 14 PA22 (io), 15 PA23 (io), 16 PA20 (io), 17 GND (power), 18 VDDIO (power), 19 PA16 (io), 20 PA15 (io), 21 PA14 (io), 22 PA13 (io), 23 PA24 (io), 24 VDDCORE (power), 25 PA25 (io), 26 PA26 (io), 27 PA12 (io), 28 PA11 (io), 29 PA10 (io), 30 PA9 (io), 31 PA8/XOUT32 (io), 32 PA7/XIN32 (io), 33 PB4/TDI (io), 34 PA6 (io), 35 PA5 (io), 36 PA4 (io), 37 PA27 (io), 38 PA28 (io), 39 NRST (io), 40 TEST (in), 41 PA29 (io), 42 PA30 (io), 43 PA3 (io), 44 PA2 (io), 45 VDDIO (power), 46 GND (power), 47 PA1 (io), 48 PA0 (io), 49 PB5/TDO (io), 50 JTAGSEL (in), 51 PB6/TMS (io), 52 PA31 (io), 53 PB7/TCK (io), 54 VDDCORE (power), 55 PB12/ERASE (io), 56 PB10/DDM (io), 57 PB11/DDP (io), 58 VDDIO (power), 59 PB13 (io), 60 GND (power), 61 PB8/XOUT (io), 62 PB9/XIN (io), 63 PB14 (io), 64 VDDPLL (power)

## ATSAM3S4CA-AU
designator DD?
signal-integrity model ATSAM3S4CA-AU
footprint TSQFP50P1600X1600X160-100M (TSQFP, 100-Leads, Body 16,0x16,0mm (max), Pitch 0,50mm, IPC Low Density)
pins: 1 ADVREF (in), 2 GND (power), 3 PB0/PWMH0 (io), 4 PC29/A11/TIOA5 (io), 5 PB1/PWMH1 (io), 6 PC30/A12/TIOB5 (io), 7 PB2/URXD1/NPCS2 (io), 8 PC31/A13/TCLK5 (io), 9 PB3/UTXD1/PCK2 (io), 10 VDDIN (power), 11 VDDOUT (power), 12 PA17/TD/PCK1/PWMH3 (io), 13 PC26/A8/TIOA4 (io), 14 PA18/RD/PCK2/A14 (io), 15 PA21/RXD1/PCK1/AD8 (io), 16 VDDCORE (power), 17 PC27/A9/TIOB4 (io), 18 PA19/RK/PWML0/A15 (io), 19 PC15/NCS1/PWML1 (io), 20 PA22/TXD1/NPCS3/NCS2 (io), 21 PC13/NWAIT/PWML0 (io), 22 PA23/SCK1/PWMH0/A19 (io), 23 PC12/NCS3 (io), 24 PA20/RF/PWML1/A16 (io), 25 PC0/D0/PWML0 (io), 26 GND (power), 27 VDDIO (power), 28 PA16/TK/TIOB1/PWML2 (io), 29 PC7/D7 (io), 30 PA15/TF/TIOA1/PWML3 (io), 31 PA14/SPCK/PWMH3 (io), 32 PC6/D6 (io), 33 PA13/MOSI/PWMH2 (io), 34 PA24/RTS1/PWMH1/A20 (io), 35 PC5/D5 (io), 36 VDDCORE (power), 37 PC4/D4/NPCS1 (io), 38 PA25/CTS1/PWMH2/A23 (io), 39 PA26/DCD1/TIOA2/MCDA2 (io), 40 PC3/D3/PWML3 (io), 41 PA12/MISO/PWMH1 (io), 42 PA11/NPCS0/PWMH0 (io), 43 PC2/D2/PWML2 (io), 44 PA10/UTXD0/NPCS2 (io), 45 GND (power), 46 PA9/URXD0/NPCS1/PWMFI0 (io), 47 PC1/D1/PWML1 (io), 48 PA8/CTS0/ADTRG/XOUT32 (io), 49 PA7/RTS0/PWMH3/XIN32 (io), 50 VDDIO (power), 51 PB4/TWD1/PWMH2/TDI (io), 52 PA6/TXD0/PCK0 (io), 53 PA5/RXD0/NPCS3 (io), 54 PC28/A10/TCLK4 (io), 55 PA4/TWCK0/TCLK0 (io), 56 VDDCORE (power), 57 PA27/DTR1/TIOB2/MCDA3 (io), 58 PC8/NWE (io), 59 PA28/DSR1/TCLK1/MCCDA (io), 60 NRST (io), 61 TEST (in), 62 PC9/NANDOE (io), 63 PA29/RI1/TCLK2/MCCK (io), 64 PA30/PWML2/NPCS2/MCDA0 (io), 65 PC10/NANDWE (io), 66 PA3/TWD0/NPCS3 (io), 67 PA2/PWMH2/SCK0 (io), 68 PC11/NRD (io), 69 VDDIO (power), 70 GND (power), 71 PC14/NCS0 (io), 72 PA1/PWMH1/TIOB0/A18 (io), 73 PC16/A21/NANDALE (io), 74 PA0/PWMH0/TIOA0/A17 (io), 75 PC17/A22/NANDCLE (io), 76 PB5/TWCK1/PWML0/TDO (io), 77 JTAGSEL (in), 78 PC18/A0/PWMH0 (io), 79 PB6/TMS/SWDIO (io), 80 PC19/A1/PWMH1 (io), 81 PA31/NPCS1/PCK2/MCDA1 (io), 82 PC20/A2/PWMH2 (io), 83 PB7/TCK/SWCLK (io), 84 PC21/A3/PWMH3 (io), 85 VDDCORE (power), 86 PC22/A4/PWML3 (io), 87 PB12/PWML1/ERASE (io), 88 PB10/DDM (io), 89 PB11/DDP (io), 90 PC23/A5/TIOA3 (io), 91 VDDIO (power), 92 PC24/A6/TIOB3 (io), 93 PB13/PWML2/PCK0 (io), 94 PC25/A7/TCLK3 (io), 95 GND (power), 96 PB8/XOUT (io), 97 PB9/XIN (io), 98 VDDIO (power), 99 PB14/NPCS1/PWMH3 (io), 100 VDDPLL (power)

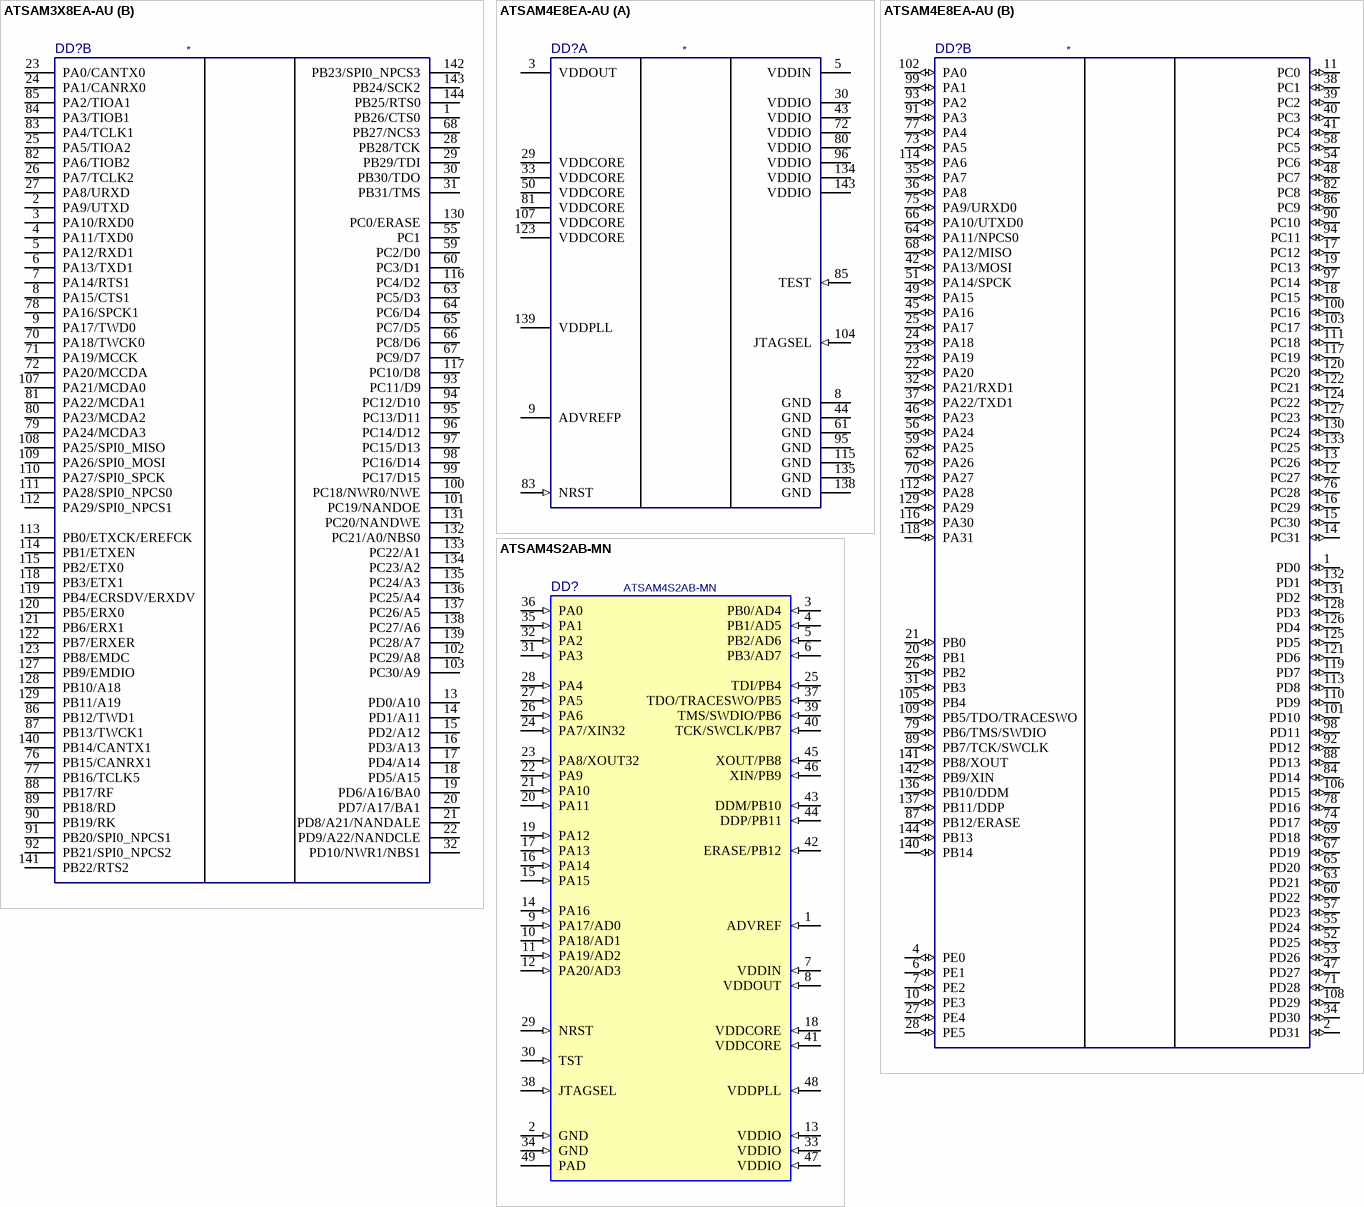
[diagram p5: symbols ATSAM3X8EA-AU to ATSAM4S2AB-MN]

## ATSAM3X8EA-AU
designator DD?
footprint LQFP144
part A pins: 10 VDDCORE, 11 VDDIO, 12 GND, 33 GNDPLL, 34 VDDPLL, 35 XOUT, 36 XIN, 37 DHSDP, 38 DHSDM, 39 VBUS, 40 VBG, 41 VDDUTMI, 42 DFSDP, 43 DFSDM, 44 GNDUTMI, 45 VDDCORE, 46 JTAGSEL, 47 NRSTB, 48 XIN32, 49 XOUT32, 50 SHDN, 51 TST, 52 VDDBU, 53 FWUP, 54 GNDBU, 56 VDDOUT, 57 VDDIN, 58 GND, 61 VDDCORE, 62 VDDIO, 69 NRST, 73 VDDANA, 74 GNDANA, 75 ADVREF, 104 VDDCORE, 105 VDDIO, 106 GND, 124 VDDCORE, 125 VDDIO, 126 GND
part B pins: 1 PB26/CTS0, 2 PA9/UTXD, 3 PA10/RXD0, 4 PA11/TXD0, 5 PA12/RXD1, 6 PA13/TXD1, 7 PA14/RTS1, 8 PA15/CTS1, 9 PA17/TWD0, 13 PD0/A10, 14 PD1/A11, 15 PD2/A12, 16 PD3/A13, 17 PD4/A14, 18 PD5/A15, 19 PD6/A16/BA0, 20 PD7/A17/BA1, 21 PD8/A21/NANDALE, 22 PD9/A22/NANDCLE, 23 PA0/CANTX0, 24 PA1/CANRX0, 25 PA5/TIOA2, 26 PA7/TCLK2, 27 PA8/URXD, 28 PB28/TCK, 29 PB29/TDI, 30 PB30/TDO, 31 PB31/TMS, 32 PD10/NWR1/NBS1, 55 PC1, 59 PC2/D0, 60 PC3/D1, 63 PC5/D3, 64 PC6/D4, 65 PC7/D5, 66 PC8/D6, 67 PC9/D7, 68 PB27/NCS3, 70 PA18/TWCK0, 71 PA19/MCCK, 72 PA20/MCCDA, 76 PB15/CANRX1, 77 PB16/TCLK5, 78 PA16/SPCK1, 79 PA24/MCDA3, 80 PA23/MCDA2, 81 PA22/MCDA1, 82 PA6/TIOB2, 83 PA4/TCLK1, 84 PA3/TIOB1, 85 PA2/TIOA1, 86 PB12/TWD1, 87 PB13/TWCK1, 88 PB17/RF, 89 PB18/RD, 90 PB19/RK, 91 PB20/SPI0_NPCS1, 92 PB21/SPI0_NPCS2, 93 PC11/D9, 94 PC12/D10, 95 PC13/D11, 96 PC14/D12, 97 PC15/D13, 98 PC16/D14, 99 PC17/D15, 100 PC18/NWR0/NWE, 101 PC19/NANDOE, 102 PC29/A8, 103 PC30/A9, 107 PA21/MCDA0, 108 PA25/SPI0_MISO, 109 PA26/SPI0_MOSI, 110 PA27/SPI0_SPCK, 111 PA28/SPI0_NPCS0, 112 PA29/SPI0_NPCS1, 113 PB0/ETXCK/EREFCK, 114 PB1/ETXEN, 115 PB2/ETX0, 116 PC4/D2, 117 PC10/D8, 118 PB3/ETX1, 119 PB4/ECRSDV/ERXDV, 120 PB5/ERX0, 121 PB6/ERX1, 122 PB7/ERXER, 123 PB8/EMDC, 127 PB9/EMDIO, 128 PB10/A18, 129 PB11/A19, 130 PC0/ERASE, 131 PC20/NANDWE, 132 PC21/A0/NBS0, 133 PC22/A1, 134 PC23/A2, 135 PC24/A3, 136 PC25/A4, 137 PC26/A5, 138 PC27/A6, 139 PC28/A7, 140 PB14/CANTX1, 141 PB22/RTS2, 142 PB23/SPI0_NPCS3, 143 PB24/SCK2, 144 PB25/RTS0

## ATSAM4E8EA-AU
designator DD?
footprint LQFP144
signal-integrity model sam4e8e_lqfp144.ibs
part A pins: 3 VDDOUT (power), 5 VDDIN (power), 8 GND (power), 9 ADVREFP (power), 29 VDDCORE (power), 30 VDDIO (power), 33 VDDCORE (power), 43 VDDIO (power), 44 GND (power), 50 VDDCORE (power), 61 GND (power), 72 VDDIO (power), 80 VDDIO (power), 81 VDDCORE (power), 83 NRST (in), 85 TEST (in), 95 GND (power), 96 VDDIO (power), 104 JTAGSEL (in), 107 VDDCORE (power), 115 GND (power), 123 VDDCORE (power), 134 VDDIO (power), 135 GND (power), 138 GND (power), 139 VDDPLL (power), 143 VDDIO (power)
part B pins: 1 PD0 (io), 2 PD31 (io), 4 PE0 (io), 6 PE1 (io), 7 PE2 (io), 10 PE3 (io), 11 PC0 (io), 12 PC27 (io), 13 PC26 (io), 14 PC31 (io), 15 PC30 (io), 16 PC29 (io), 17 PC12 (io), 18 PC15 (io), 19 PC13 (io), 20 PB1 (io), 21 PB0 (io), 22 PA20 (io), 23 PA19 (io), 24 PA18 (io), 25 PA17 (io), 26 PB2 (io), 27 PE4 (io), 28 PE5 (io), 31 PB3 (io), 32 PA21/RXD1 (io), 34 PD30 (io), 35 PA7 (io), 36 PA8 (io), 37 PA22/TXD1 (io), 38 PC1 (io), 39 PC2 (io), 40 PC3 (io), 41 PC4 (io), 42 PA13/MOSI (io), 45 PA16 (io), 46 PA23 (io), 47 PD27 (io), 48 PC7 (io), 49 PA15 (io), 51 PA14/SPCK (io), 52 PD25 (io), 53 PD26 (io), 54 PC6 (io), 55 PD24 (io), 56 PA24 (io), 57 PD23 (io), 58 PC5 (io), 59 PA25 (io), 60 PD22 (io), 62 PA26 (io), 63 PD21 (io), 64 PA11/NPCS0 (io), 65 PD20 (io), 66 PA10/UTXD0 (io), 67 PD19 (io), 68 PA12/MISO (io), 69 PD18 (io), 70 PA27 (io), 71 PD28 (io), 73 PA5 (io), 74 PD17 (io), 75 PA9/URXD0 (io), 76 PC28 (io), 77 PA4 (io), 78 PD16 (io), 79 PB6/TMS/SWDIO (io), 82 PC8 (io), 84 PD14 (io), 86 PC9 (io), 87 PB12/ERASE (io), 88 PD13 (io), 89 PB7/TCK/SWCLK (io), 90 PC10 (io), 91 PA3 (io), 92 PD12 (io), 93 PA2 (io), 94 PC11 (io), 97 PC14 (io), 98 PD11 (io), 99 PA1 (io), 100 PC16 (io), 101 PD10 (io), 102 PA0 (io), 103 PC17 (io), 105 PB4 (io), 106 PD15 (io), 108 PD29 (io), 109 PB5/TDO/TRACESWO (io), 110 PD9 (io), 111 PC18 (io), 112 PA28 (io), 113 PD8 (io), 114 PA6 (io), 116 PA30 (io), 117 PC19 (io), 118 PA31 (io), 119 PD7 (io), 120 PC20 (io), 121 PD6 (io), 122 PC21 (io), 124 PC22 (io), 125 PD5 (io), 126 PD4 (io), 127 PC23 (io), 128 PD3 (io), 129 PA29 (io), 130 PC24 (io), 131 PD2 (io), 132 PD1 (io), 133 PC25 (io), 136 PB10/DDM (io), 137 PB11/DDP (io), 140 PB14 (io), 141 PB8/XOUT (io), 142 PB9/XIN (io), 144 PB13 (io)

## ATSAM4S2AB-MN
designator DD?
footprint QFN48_5.8 (QFN, 64-Leads, Body 9x9mm, Pitch 0.5mm, Thermal Pad 7.3x7.3mm, IPC Low Density)
pins: 1 ADVREF (in), 2 GND (in), 3 PB0/AD4 (in), 4 PB1/AD5 (in), 5 PB2/AD6 (in), 6 PB3/AD7 (in), 7 VDDIN (in), 8 VDDOUT (in), 9 PA17/AD0 (in), 10 PA18/AD1 (in), 11 PA19/AD2 (in), 12 PA20/AD3 (in), 13 VDDIO (in), 14 PA16 (in), 15 PA15 (in), 16 PA14 (in), 17 PA13 (in), 18 VDDCORE (in), 19 PA12 (in), 20 PA11 (in), 21 PA10 (in), 22 PA9 (in), 23 PA8/XOUT32 (in), 24 PA7/XIN32 (in), 25 TDI/PB4 (in), 26 PA6 (in), 27 PA5 (in), 28 PA4 (in), 29 NRST (in), 30 TST (in), 31 PA3 (in), 32 PA2 (in), 33 VDDIO (in), 34 GND (in), 35 PA1 (in), 36 PA0 (in), 37 TDO/TRACESWO/PB5 (in), 38 JTAGSEL (in), 39 TMS/SWDIO/PB6 (in), 40 TCK/SWCLK/PB7 (in), 41 VDDCORE (in), 42 ERASE/PB12 (in), 43 DDM/PB10 (in), 44 DDP/PB11 (in), 45 XOUT/PB8 (in), 46 XIN/PB9 (in), 47 VDDIO (in), 48 VDDPLL (in), 49 PAD (power)

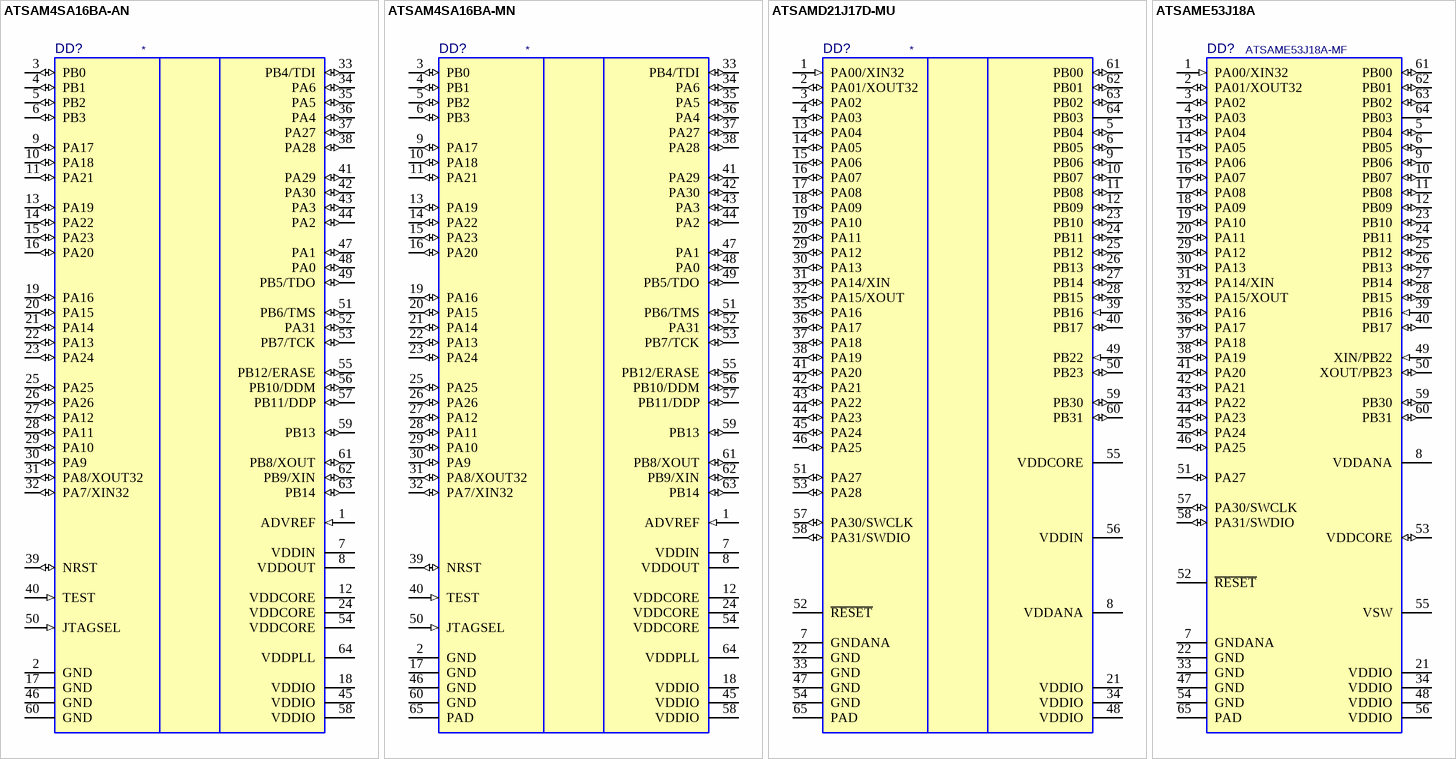
[diagram p6: symbols ATSAM4SA16BA-AN to ATSAME53J18A]

## ATSAM4SA16BA-AN
designator DD?
footprint LQFP64
pins: 1 ADVREF (in), 2 GND (power), 3 PB0 (io), 4 PB1 (io), 5 PB2 (io), 6 PB3 (io), 7 VDDIN (power), 8 VDDOUT (power), 9 PA17 (io), 10 PA18 (io), 11 PA21 (io), 12 VDDCORE (power), 13 PA19 (io), 14 PA22 (io), 15 PA23 (io), 16 PA20 (io), 17 GND (power), 18 VDDIO (power), 19 PA16 (io), 20 PA15 (io), 21 PA14 (io), 22 PA13 (io), 23 PA24 (io), 24 VDDCORE (power), 25 PA25 (io), 26 PA26 (io), 27 PA12 (io), 28 PA11 (io), 29 PA10 (io), 30 PA9 (io), 31 PA8/XOUT32 (io), 32 PA7/XIN32 (io), 33 PB4/TDI (io), 34 PA6 (io), 35 PA5 (io), 36 PA4 (io), 37 PA27 (io), 38 PA28 (io), 39 NRST (io), 40 TEST (in), 41 PA29 (io), 42 PA30 (io), 43 PA3 (io), 44 PA2 (io), 45 VDDIO (power), 46 GND (power), 47 PA1 (io), 48 PA0 (io), 49 PB5/TDO (io), 50 JTAGSEL (in), 51 PB6/TMS (io), 52 PA31 (io), 53 PB7/TCK (io), 54 VDDCORE (power), 55 PB12/ERASE (io), 56 PB10/DDM (io), 57 PB11/DDP (io), 58 VDDIO (power), 59 PB13 (io), 60 GND (power), 61 PB8/XOUT (io), 62 PB9/XIN (io), 63 PB14 (io), 64 VDDPLL (power)

## ATSAM4SA16BA-MN
designator DD?
footprint QFN64 (QFN, 64-Leads, Body 9x9mm, Pitch 0.5mm, Thermal Pad 7.3x7.3mm, IPC Low Density)
pins: 1 ADVREF (in), 2 GND (power), 3 PB0 (io), 4 PB1 (io), 5 PB2 (io), 6 PB3 (io), 7 VDDIN (power), 8 VDDOUT (power), 9 PA17 (io), 10 PA18 (io), 11 PA21 (io), 12 VDDCORE (power), 13 PA19 (io), 14 PA22 (io), 15 PA23 (io), 16 PA20 (io), 17 GND (power), 18 VDDIO (power), 19 PA16 (io), 20 PA15 (io), 21 PA14 (io), 22 PA13 (io), 23 PA24 (io), 24 VDDCORE (power), 25 PA25 (io), 26 PA26 (io), 27 PA12 (io), 28 PA11 (io), 29 PA10 (io), 30 PA9 (io), 31 PA8/XOUT32 (io), 32 PA7/XIN32 (io), 33 PB4/TDI (io), 34 PA6 (io), 35 PA5 (io), 36 PA4 (io), 37 PA27 (io), 38 PA28 (io), 39 NRST (io), 40 TEST (in), 41 PA29 (io), 42 PA30 (io), 43 PA3 (io), 44 PA2 (io), 45 VDDIO (power), 46 GND (power), 47 PA1 (io), 48 PA0 (io), 49 PB5/TDO (io), 50 JTAGSEL (in), 51 PB6/TMS (io), 52 PA31 (io), 53 PB7/TCK (io), 54 VDDCORE (power), 55 PB12/ERASE (io), 56 PB10/DDM (io), 57 PB11/DDP (io), 58 VDDIO (power), 59 PB13 (io), 60 GND (power), 61 PB8/XOUT (io), 62 PB9/XIN (io), 63 PB14 (io), 64 VDDPLL (power), 65 PAD (power)
1 alternate drawing of the same symbol

## ATSAMD21J17D-MU
designator DD?
footprint VQFN64_4.7 (QFN, 64-Leads, Body 9x9mm, Pitch 0.5mm, Thermal Pad 4.7x4.7mm, IPC Low Density)
pins: 1 PA00/XIN32 (in), 2 PA01/XOUT32 (io), 3 PA02 (io), 4 PA03 (io), 5 PB04 (io), 6 PB05 (io), 7 GNDANA (power), 8 VDDANA (power), 9 PB06 (io), 10 PB07 (io), 11 PB08 (io), 12 PB09 (io), 13 PA04 (io), 14 PA05 (io), 15 PA06 (io), 16 PA07 (io), 17 PA08 (io), 18 PA09 (io), 19 PA10 (io), 20 PA11 (io), 21 VDDIO (power), 22 GND (power), 23 PB10 (io), 24 PB11 (io), 25 PB12 (io), 26 PB13 (io), 27 PB14 (io), 28 PB15 (io), 29 PA12 (io), 30 PA13 (io), 31 PA14/XIN (io), 32 PA15/XOUT (io), 33 GND (power), 34 VDDIO (power), 35 PA16 (io), 36 PA17 (io), 37 PA18 (io), 38 PA19 (io), 39 PB16 (in), 40 PB17 (io), 41 PA20 (io), 42 PA21 (io), 43 PA22 (io), 44 PA23 (io), 45 PA24 (io), 46 PA25 (io), 47 GND (power), 48 VDDIO (power), 49 PB22 (in), 50 PB23 (io), 51 PA27 (io), 52 ~{RESET} (power), 53 PA28 (io), 54 GND (power), 55 VDDCORE (power), 56 VDDIN (power), 57 PA30/SWCLK (io), 58 PA31/SWDIO (io), 59 PB30 (io), 60 PB31 (io), 61 PB00 (io), 62 PB01 (io), 63 PB02 (io), 64 PB03 (power), 65 PAD (power)

## ATSAME53J18A
designator DD?, comment ATSAME53J18A-MF
footprint VQFN64_4.7 (QFN, 64-Leads, Body 9x9mm, Pitch 0.5mm, Thermal Pad 4.7x4.7mm, IPC Low Density)
pins: 1 PA00/XIN32 (in), 2 PA01/XOUT32 (io), 3 PA02 (io), 4 PA03 (io), 5 PB04 (io), 6 PB05 (io), 7 GNDANA (power), 8 VDDANA (power), 9 PB06 (io), 10 PB07 (io), 11 PB08 (io), 12 PB09 (io), 13 PA04 (io), 14 PA05 (io), 15 PA06 (io), 16 PA07 (io), 17 PA08 (io), 18 PA09 (io), 19 PA10 (io), 20 PA11 (io), 21 VDDIO (power), 22 GND (power), 23 PB10 (io), 24 PB11 (io), 25 PB12 (io), 26 PB13 (io), 27 PB14 (io), 28 PB15 (io), 29 PA12 (io), 30 PA13 (io), 31 PA14/XIN (io), 32 PA15/XOUT (io), 33 GND (power), 34 VDDIO (power), 35 PA16 (io), 36 PA17 (io), 37 PA18 (io), 38 PA19 (io), 39 PB16 (in), 40 PB17 (io), 41 PA20 (io), 42 PA21 (io), 43 PA22 (io), 44 PA23 (io), 45 PA24 (io), 46 PA25 (io), 47 GND (power), 48 VDDIO (power), 49 XIN/PB22 (in), 50 XOUT/PB23 (io), 51 PA27 (io), 52 ~{RESET} (power), 53 VDDCORE (io), 54 GND (power), 55 VSW (power), 56 VDDIO (power), 57 PA30/SWCLK (io), 58 PA31/SWDIO (io), 59 PB30 (io), 60 PB31 (io), 61 PB00 (io), 62 PB01 (io), 63 PB02 (io), 64 PB03 (power), 65 PAD (power)

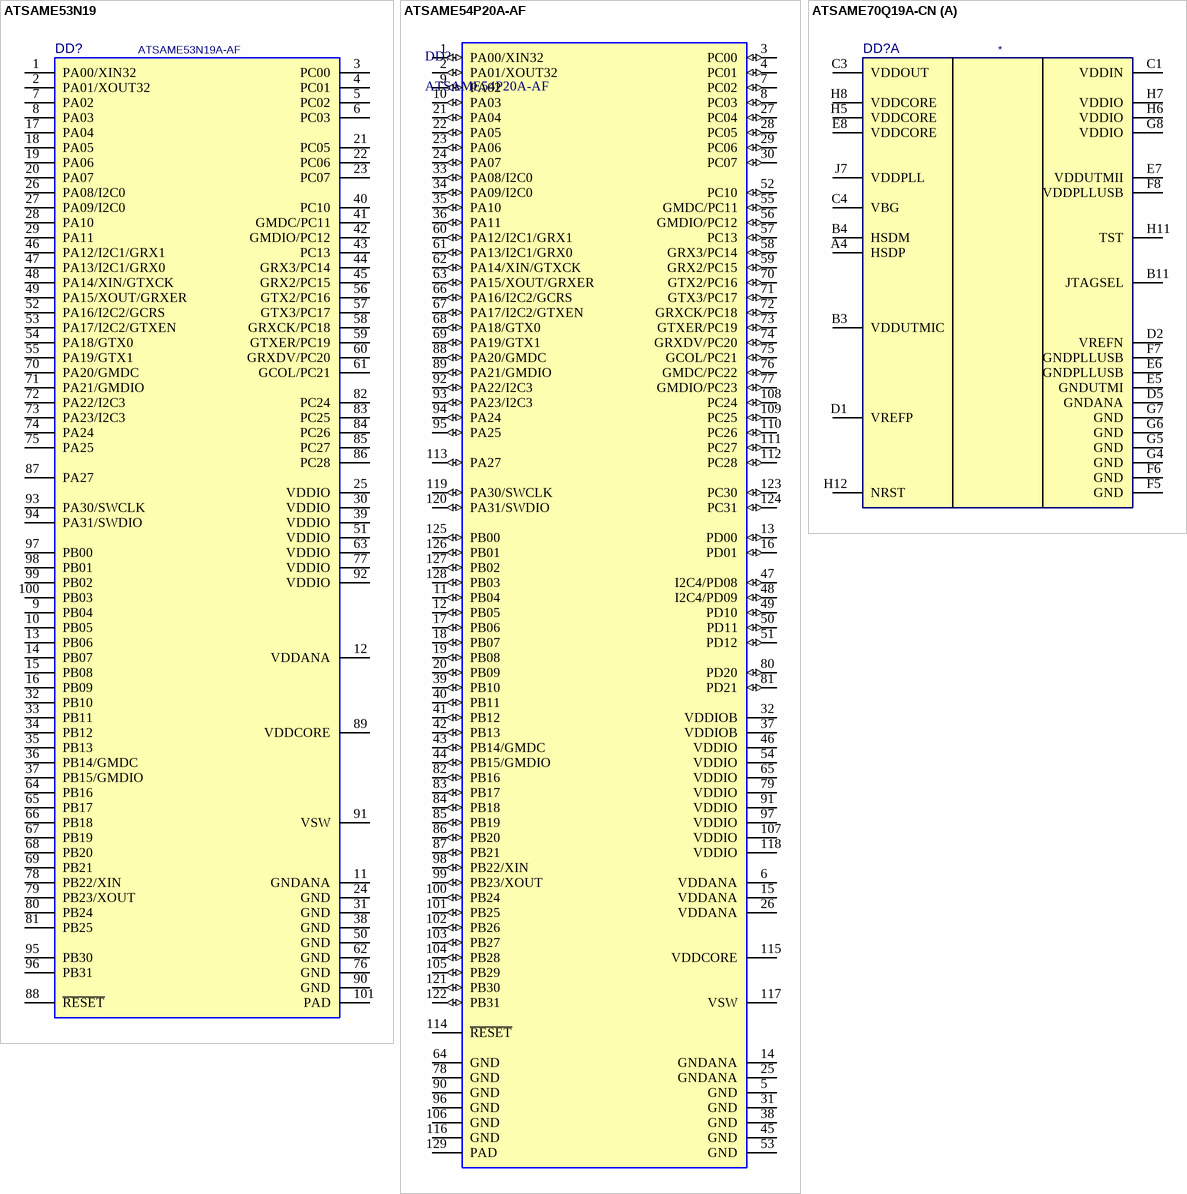
[diagram p7: symbols ATSAME53N19 to ATSAME70Q19A-CN]